# Altium integrated library AMCC PowerPC 440.IntLib: 120 symbols (part 17 of 33)
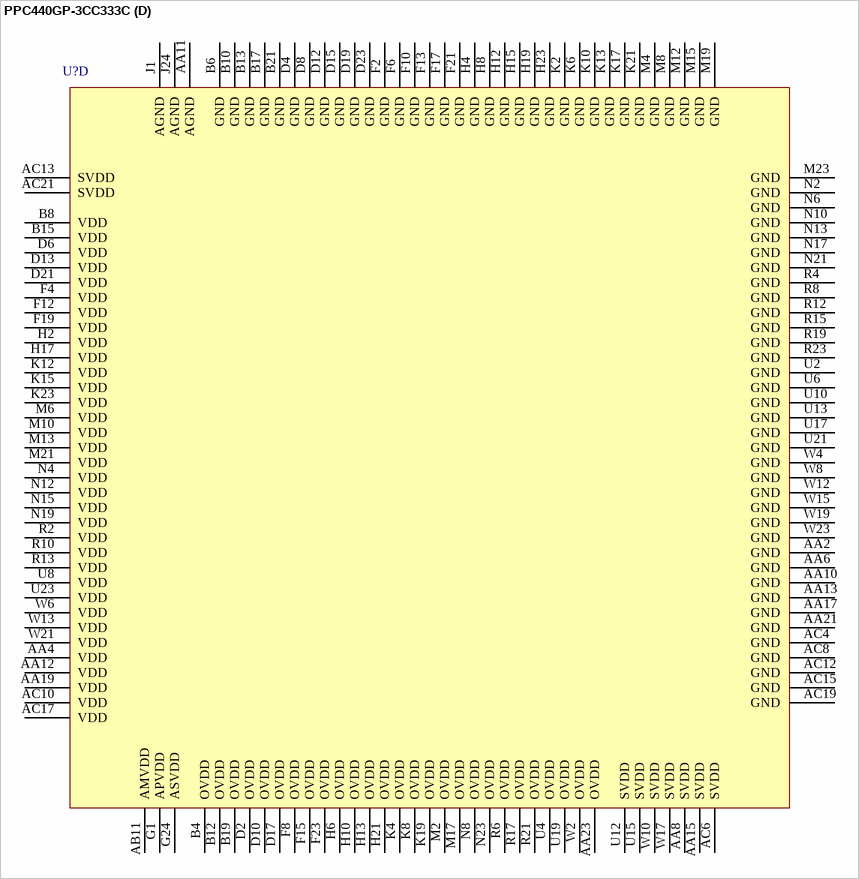
[diagram p415: symbol PPC440GP-3CC333C]

## PPC440GP-3CC333C
designator U?
PowerPC 440GP Embedded Processor, 333MHz, 25mm, 552 Ball CBGA; Published: 6-Oct-2005; LatestRevisionDate: 13-Apr-2006; LatestRevisionNote: IPC-7351 Footprint Added.; DatasheetVersion: rev1.06, Nov-2005; PackageVersion: Nov-2005; PackageReference: CBGA552_38; Publisher: Altium Limited; PackageDescription: 552-Ball Ceramic Ball Grid Array; ComponentLink1Description: Manufacturer Link; ComponentLink1URL: http://www.amcc.com/; ComponentLink2Description: Datasheet; ComponentLink2URL: https://www.amcc.com/MyAMCC/retrieveDocument/PowerPC/440GP/PPC440GP_DS2006_v1_06.pdf
footprint CBGA552_38 (BGA, 552-Leads, Body 25x25mm, Pitch 1mm)
3D model PPC440GP-CBGA552   (552-Ball Ceramic Ball Grid Array)
part A pins: A5 DrvrInh2 (in), AA1 MemData48 (io), AA3 MemData49 (io), AA5 DQS8 (io), AA14 MemData16 (io), AA16 BA0 (out), AA20 MemData03 (io), AB2 MemData50 (io), AB3 MemData52 (io), AB4 ECC6 (io), AB5 ~{CAS} (out), AB6 ECC1 (io), AB7 ECC0 (io), AB8 MemData40 (io), AB9 MemData45 (io), AB10 ClkEn1 (out), AB12 MemData29 (io), AB13 DQS3 (io), AB15 ~{BankSel}0 (out), AB16 MemData11 (io), AB17 MemData15 (io), AB18 MemAddr06 (out), AB19 MemData07 (io), AB20 MemAddr03 (out), AB21 MemData01 (io), AB22 TMS (in), AC3 ECC5 (io), AC7 MemData44 (io), AC9 DQS5 (io), AC11 DQS4 (io), AC14 DQS2 (io), AC16 DQS1 (io), AC18 MemData12 (io), AC20 DQS0 (io), AC22 MemData02 (io), AD4 ECC7 (io), AD5 ~{BankSel}3 (out), AD6 ECC2 (io), AD7 ~{RA}S (out), AD8 MemData41 (io), AD9 BA1 (out), AD10 MemData39 (io), AD11 ~{BankSel}2 (out), AD12 MemData33 (io), AD13 MemData24 (io), AD14 MemData25 (io), AD15 MemData17 (io), AD16 MemAddr05 (out), AD17 ClkEn0 (out), AD18 MemAddr04 (out), AD19 MemData06 (io), AD20 MemAddr01 (out), AD21 MemData00 (io), G22 SysClk (in), L1 Reserved, L2 RefVEn (in), L7 DrvrInh1 (in), L18 IRQ03[GPIO03] (io), L20 IRQ01[GPIO01] (io), M5 TestEn (in), M14 IRQ06[GPIO06] (io), M20 IRQ05[GPIO05] (io), N14 IRQ04[GPIO04] (io), N18 IRQ00[GPIO00] (io), N20 IRQ08[GPIO08] (io), N24 ~{TRS}T (in), P4 Reserved, P10 ~{SysRese}t (io), P12 MemData28 (io), P14 GPIO11 (io), P18 IRQ07[GPIO07] (io), P20 IRQ02[GPIO02] (io), P22 IRQ09[GPIO09] (io), R11 MemData42 (io), R14 MemData14 (io), T1 DQS7 (io), T2 SysErr (out), T7 MemData61 (io), T8 MemData56 (io), T9 MemVRef2 (in), T10 MemData38 (io), T11 MemData37 (io), T12 MemData35 (io), T13 MemData22 (io), T14 MemVRef1 (in), T15 MemData18 (io), U1 TmrClk (in), U5 MemData63 (io), U7 MemData57 (io), U9 ECC4 (io), U11 MemData36 (io), U14 MemData21 (io), U16 MemData04 (io), V1 MemData55 (io), V5 ~{Hal}t (in), V6 MemData60 (io), V7 MemData54 (io), V8 ~{MemClkOut}0 (out), V9 MemClkOut0 (out), V10 MemAddr12 (out), V11 MemAddr09 (out), V12 MemData31 (io), V13 MemAddr08 (out), V14 MemData26 (io), V15 MemData19 (io), V16 MemData09 (io), V17 MemData05 (io), V18 IRQ10[GPIO10] (io), V22 TCK (in), W1 MemData58 (io), W3 MemData59 (io), W5 MemData62 (io), W7 ECC3 (io), W9 ClkEn3 (out), W11 MemData32 (io), W14 ~{BankSel}1 (out), W16 MemAddr10 (out), W18 MemData08 (io), Y1 MemData51 (io), Y2 MemData53 (io), Y4 DQS6 (io), Y5 ~{WE} (out), Y6 MemData46 (io), Y7 MemData43 (io), Y8 MemData47 (io), Y9 ClkEn2 (out), Y10 MemData34 (io), Y11 MemAddr11 (out), Y12 MemData30 (io), Y13 MemData27 (io), Y14 MemAddr07 (out), Y15 MemData23 (io), Y16 MemData20 (io), Y17 MemData10 (io), Y18 MemData13 (io), Y19 MemAddr00 (out), Y20 MemAddr02 (out), Y22 TDO (out), Y24 TDI (in)
part B pins: A4 PCIXAD51 (io), A6 PCIXAD58 (io), A7 EMCRxD2,EMC1RxD0 (io), A8 PCIXAD42 (io), A10 PCIXAD05 (io), A11 ~{PCIXFram}e (io), A14 PCIXM66En (in), A15 PCIXAD09 (io), A17 ~{PCIXPEr}r (io), A18 ~{PCIXSEr}r (io), A20 PCIXAD21 (io), A21 PCIXAD22 (io), B3 PCIXAD46 (io), B5 PCIXAD54 (io), B7 PCIXAD62 (io), B9 PCIXAD01 (io), B16 PCIXAD13 (io), B22 PCIXAD25 (io), C2 PCIXAD41 (io), C3 PCIXC5[~{BE5}] (io), C4 PCIXAD50 (io), C5 EMCTxErr,EMC1TxEn (out), C6 PCIXAD57 (io), C8 PCIXC4[~{BE4}] (io), C9 PCIXAD55 (io), C10 PCIXAD04 (io), C12 ~{PCIXTRD}Y (io), C15 PCIXAD10 (io), C16 PCIXAD14 (io), C17 PCIXAD00 (io), C19 PCIXC2[~{BE2}] (io), C21 PCIXAD23 (io), C22 ~{PCIXGnt}1[IRQ12] (io), C23 PCIXAD28 (io), D1 PCIXAD36 (io), D3 PCIXAD45 (io), D5 PCIXAD53 (io), D7 PCIXAD61 (io), D9 ~{PCIXAck6}4 (io), D16 PCIXAD15 (io), D20 PCIXAD20 (io), D22 PCIXAD30 (io), D24 PCIXAD31 (io), E1 EMCRxD1,EMC0RxD1 (io), E2 PCIXAD40 (io), E3 PCIXClk (in), E4 PCIXAD49 (io), E6 PCIXAD56 (io), E7 PCIXAD60 (io), E8 PCIXAD63 (io), E9 ~{PCIXReq6}4 (io), E10 PCIXAD03 (io), E12 ~{PCIXIRD}Y (io), E13 ~{PCIXDevSe}l (io), E15 PCIXAD11 (io), E16 PCIXC1[~{BE1}] (io), E18 PCIXAD16 (io), E19 PCIXAD17 (io), E20 ~{PCIXReq}2 (in), E21 ~{PCIXReq}1[IRQ11] (in), E22 ~{PCIXGnt}0 (io), E23 PCIXAD27 (io), E24 ~{PCIXReq}0 (io), F1 PCIXAD35 (io), F3 PCIXAD44 (io), F5 PCIXAD52 (io), F7 PCIXAD59 (io), F9 PCIXC7[~{BE7}] (io), F11 PCIXAD06 (io), F14 PCIXC0[~{BE0}] (io), F16 PCIXParLow (io), F18 PCIXAD18 (io), F20 PCIXC3[~{BE3}] (io), F22 PCIXAD24 (io), F24 PCIXAD29 (io), G2 PCIXAD39 (io), G3 EMCRxD0,EMC0RxD0 (io), G4 PCIXAD48 (io), G5 PCIXAD43 (io), G7 PCIXIDSel (in), G8 PCIX133Cap (out), G9 PCIXC6[~{BE6}] (io), G10 PCIXAD02 (io), G12 PCIXAD07 (io), G14 PCIXAD08 (io), G15 PCIXAD12 (io), G18 PCIXAD19 (io), G21 PCIXAD26 (io), G23 ~{PCIXReq}4 (in), H1 PCIXAD33 (io), H3 PCIXAD32 (io), H5 PCIXAD38 (io), H7 PCIXAD47 (io), H9 EMCRxD3,EMC1RxD1 (io), J2 EMCRxClk (in), J3 EMCTxD3,EMC1TxD1 (out), J4 EMCTxD2,EMC1TxD0 (out), J5 PCIXAD37 (io), J6 EMCTxClk,EMCRefClk (in), J7 EMCCD,EMC1RxErr (io), J8 EMCMDClk (out), K1 EMCRxDV,EMC1CrSDV (in), K3 EMCRxErr,EMC0RxErr (in), K5 EMCTxD1,EMC0TxD1 (out), K7 EMCCrS,EMC0CrSDV (io), L4 PCIXParHigh (io), L5 EMCMDIO (io), L6 EMCTxEn,EMC0TxEn (out), L8 PCIXAD34 (io), L9 EMCTxD0,EMC0TxD0 (out), L12 ~{PCIXSto}p (io), L23 PCIXCap (in), M7 ~{PCIXIN}T (out), M18 ~{PCIXGn}~{t}3 (out), M24 ~{PCIXRese}t (out), N9 TrcES2[GPIO23] (io), N16 TrcBS0[GPIO18] (io), N22 ~{PCIXGnt}2 (out), P3 TrcTS1[GPIO27] (io), P8 TrcES3[GPIO24] (io), P9 TrcTS3[GPIO29] (io), P17 TrcBS1[GPIO19] (io), P19 ~{PCIXGnt}5 (out), P23 TrcES1[GPIO22] (io), R1 TrcTS6 (io), R5 TrcClk (out), R7 TrcTS2[GPIO28] (io), R9 TrcTS4[GPIO30] (io), R18 ~{PCIXReq}5 (in), R20 ~{PCIXReq}3 (in), R22 ~{PCIXGnt}4 (out), T4 TrcTS0[GPIO26] (io), T5 TrcES4[GPIO25] (io), T6 TrcTS5[GPIO31] (io), T20 TrcBS2[GPIO20] (io), T21 TrcES0[GPIO21] (io)
part C pins: A9 UARTSerClk (in), A12 PerAddr03 (io), A13 PerAddr12 (io), A16 PerAddr11 (io), A19 PerAddr04 (io), AA7 DM5 (out), AA9 DM4 (out), AA18 DM1 (out), AA22 ~{ExtAc}k (out), AA24 BusReq (out), AB14 DM2 (out), AB23 ~{ExtRe}q (in), AC5 DM8 (out), B11 PerAddr02 (io), B14 PerAddr13 (io), B18 ~{UART0_DT}R (out), B20 PerAddr16 (io), C7 ~{PerBLas}t (io), C11 PerAddr01 (io), C13 ~{UART0_CT}S (in), C14 PerAddr14 (io), C18 UART1_Rx[GPIO12] (io), C20 PerAddr10 (io), D11 PerAddr00 (io), D14 PerAddr15 (io), D18 PerAddr05 (io), E5 ~{UART1_RT}S/~{DTR}[GPIO15] (io), E11 PerAddr06 (io), E14 PerAddr09 (io), E17 ~{PerCS}0 (out), G6 ~{UART1_DS}R/~{CTS}[GPIO14] (io), G11 IIC0SClk (io), G13 IIC0SDA (io), G16 ~{UART0_RT}S (out), G17 UART0_Rx (in), G19 PerData04 (io), G20 PerData03 (io), H11 IIC1SClk[GPIO16] (io), H14 IIC1SDA[GPIO17] (io), H16 ~{UART0_R}I (in), H18 PerData05 (io), H20 PerData02 (io), H22 PerData01 (io), H24 PerData00 (io), J9 PerData19 (io), J10 PerData18 (io), J11 PerData17 (io), J12 PerData16 (io), J13 PerData15 (io), J14 PerData14 (io), J15 PerData13 (io), J16 UART1_Tx[GPIO13] (io), J17 PerData12 (io), J18 PerData11 (io), J19 PerData10 (io), J20 PerData09 (io), J21 PerData08 (io), J22 PerData07 (io), J23 PerData06 (io), K9 PerData28 (io), K11 PerData27 (io), K14 PerData26 (io), K16 PerData25 (io), K18 PerData24 (io), K20 PerData23 (io), K22 PerData22 (io), K24 PerData21 (io), L3 ~{PerCS}4 (out), L10 ~{PerCS}1 (out), L11 UART0_Tx (in), L13 ~{PerCS}6 (out), L14 PerData20 (io), L15 PerAddr17 (io), L16 PerData31 (io), L17 PerData30 (io), L19 PerData29 (io), L21 PerAddr18 (io), L22 PerAddr19 (io), L24 PerAddr22 (io), M1 PerAddr21 (io), M3 PerAddr07 (io), M9 ~{PerO}E (out), M11 DMAReq1 (in), M16 EOT3/TC3 (io), M22 PerAddr20 (io), N1 PerAddr08 (io), N3 PerAddr28 (io), N5 DMAAck0 (out), N7 PerReady[RcvrInh] (in), N11 DMAReq2 (in), P1 DMAReq3 (in), P2 ~{PerW}E (out), P5 PerR/~{W} (io), P6 DMAAck2 (out), P7 DMAAck1 (out), P11 DMAAck3 (out), P13 DM3 (out), P15 EOT1/TC1 (io), P16 EOT2/TC2 (io), P21 PerErr (io), P24 PerAddr23 (io), R3 DMAReq0 (in), R16 EOT0/TC0 (io), R24 PerAddr25 (io), T3 ~{PerCS}5 (out), T16 DM0 (out), T17 ~{ExtRese}t (out), T18 ~{PerWBE}0 (io), T19 PerAddr24 (io), T22 PerPar1 (io), T23 PerPar0 (io), T24 ~{PerCS}3 (out), U3 ~{PerCS}7 (out), U18 PerClk (out), U20 PerPar3 (io), U22 PerAddr26 (io), U24 PerAddr27 (io), V2 ~{UART0_DS}R (in), V3 DM7 (out), V4 ~{PerCS}2 (out), V19 ~{PerWBE}1 (io), V20 PerAddr29 (io), V21 PerAddr31 (io), V23 PerAddr30 (io), V24 ~{UART0_DC}D (in), W20 PerPar2 (io), W22 ~{PerWBE}2 (io), W24 ~{PerWBE}3 (io), Y3 DM6 (out), Y21 HoldAck (out), Y23 HoldReq (in)
part D pins: AA2 GND (power), AA4 VDD (power), AA6 GND (power), AA8 SVDD (power), AA10 GND (power), AA11 AGND (power), AA12 VDD (power), AA13 GND (power), AA15 SVDD (power), AA17 GND (power), AA19 VDD (power), AA21 GND (power), AA23 OVDD (power), AB11 AMVDD (power), AC4 GND (power), AC6 SVDD (power), AC8 GND (power), AC10 VDD (power), AC12 GND (power), AC13 SVDD (power), AC15 GND (power), AC17 VDD (power), AC19 GND (power), AC21 SVDD (power), B4 OVDD (power), B6 GND (power), B8 VDD (power), B10 GND (power), B12 OVDD (power), B13 GND (power), B15 VDD (power), B17 GND (power), B19 OVDD (power), B21 GND (power), D2 OVDD (power), D4 GND (power), D6 VDD (power), D8 GND (power), D10 OVDD (power), D12 GND (power), D13 VDD (power), D15 GND (power), D17 OVDD (power), D19 GND (power), D21 VDD (power), D23 GND (power), F2 GND (power), F4 VDD (power), F6 GND (power), F8 OVDD (power), F10 GND (power), F12 VDD (power), F13 GND (power), F15 OVDD (power), F17 GND (power), F19 VDD (power), F21 GND (power), F23 OVDD (power), G1 APVDD (power), G24 ASVDD (power), H2 VDD (power), H4 GND (power), H6 OVDD (power), H8 GND (power), H10 OVDD (power), H12 GND (power), H13 OVDD (power), H15 GND (power), H17 VDD (power), H19 GND (power), H21 OVDD (power), H23 GND (power), J1 AGND (power), J24 AGND (power), K2 GND (power), K4 OVDD (power), K6 GND (power), K8 OVDD (power), K10 GND (power), K12 VDD (power), K13 GND (power), K15 VDD (power), K17 GND (power), K19 OVDD (power), K21 GND (power), K23 VDD (power), M2 OVDD (power), M4 GND (power), M6 VDD (power), M8 GND (power), M10 VDD (power), M12 GND (power), M13 VDD (power), M15 GND (power), M17 OVDD (power), M19 GND (power), M21 VDD (power), M23 GND (power), N2 GND (power), N4 VDD (power), N6 GND (power), N8 OVDD (power), N10 GND (power), N12 VDD (power), N13 GND (power), N15 VDD (power), N17 GND (power), N19 VDD (power), N21 GND (power), N23 OVDD (power), R2 VDD (power), R4 GND (power), R6 OVDD (power), R8 GND (power), R10 VDD (power), R12 GND (power), R13 VDD (power), R15 GND (power), R17 OVDD (power), R19 GND (power), R21 OVDD (power), R23 GND (power), U2 GND (power), U4 OVDD (power), U6 GND (power), U8 VDD (power), U10 GND (power), U12 SVDD (power), U13 GND (power), U15 SVDD (power), U17 GND (power), U19 OVDD (power), U21 GND (power), U23 VDD (power), W2 OVDD (power), W4 GND (power), W6 VDD (power), W8 GND (power), W10 SVDD (power), W12 GND (power), W13 VDD (power), W15 GND (power), W17 SVDD (power), W19 GND (power), W21 VDD (power), W23 GND (power)

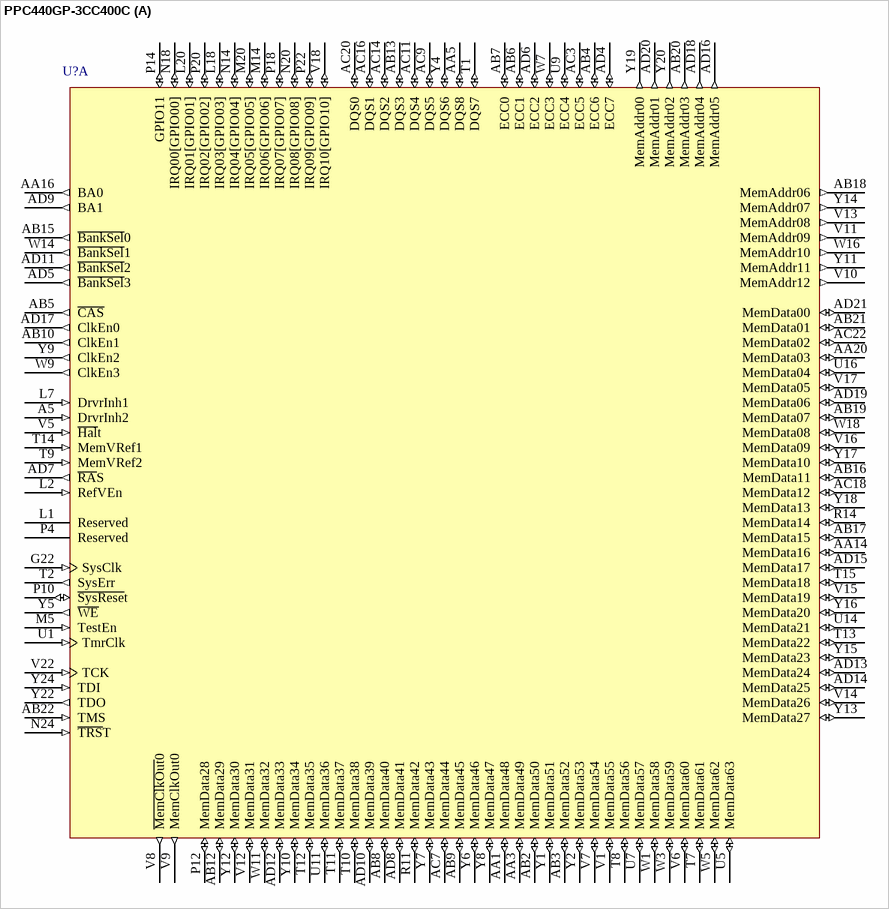
[diagram p196: symbol PPC440GP-3CC400C]

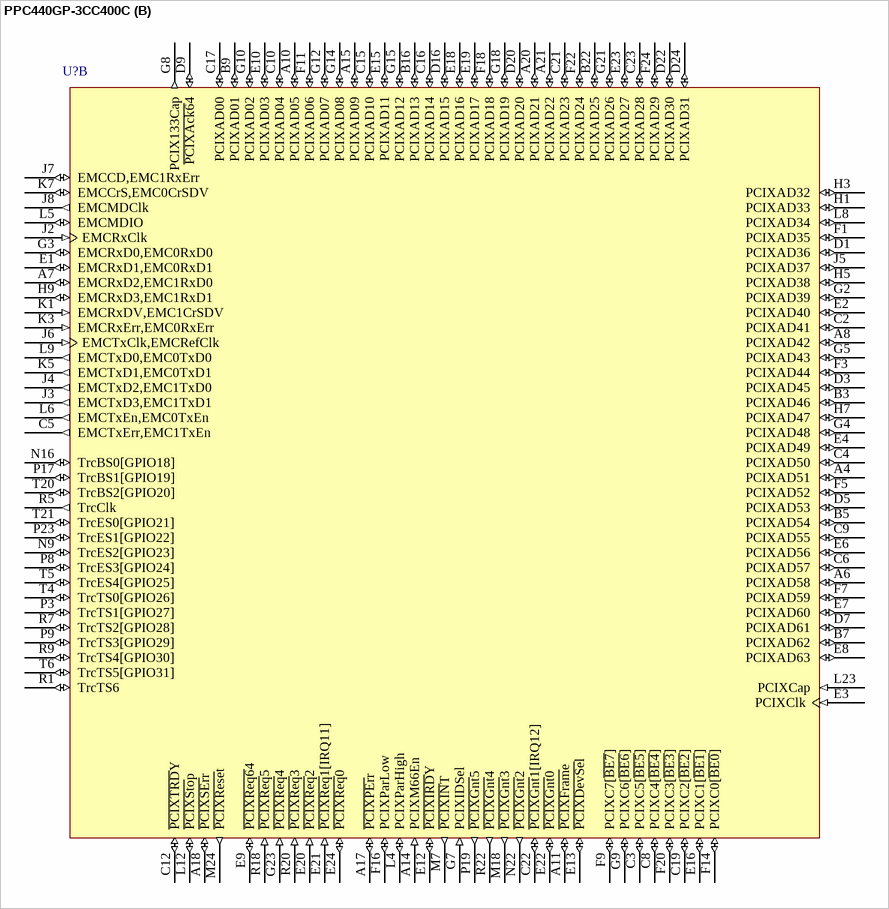
[diagram p197: symbol PPC440GP-3CC400C]

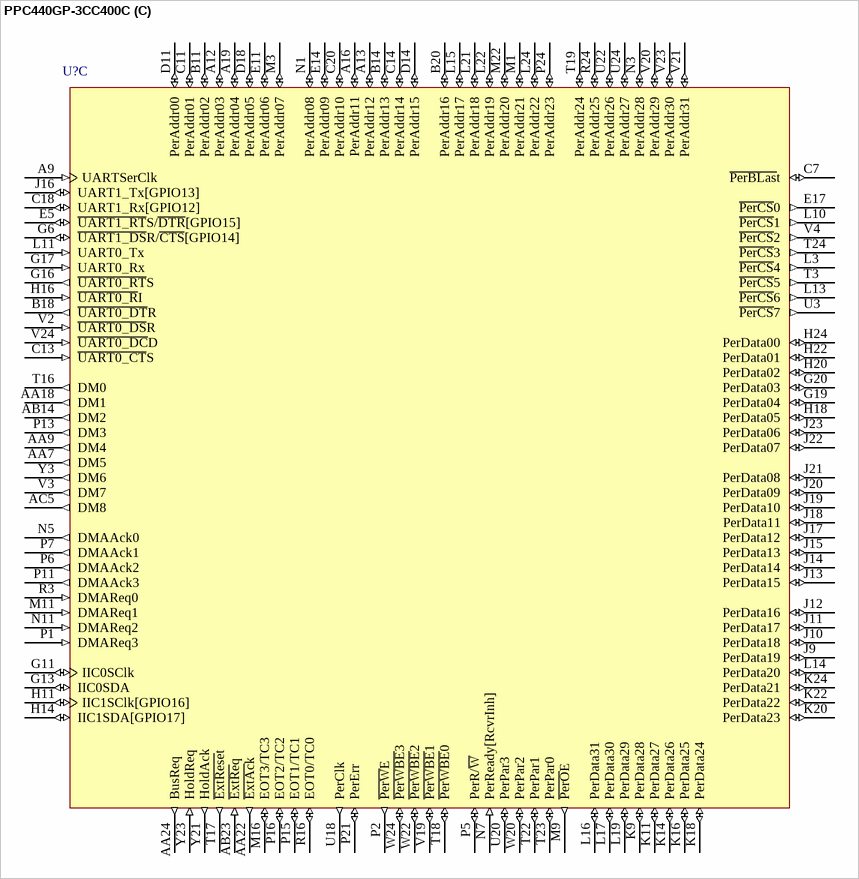
[diagram p198: symbol PPC440GP-3CC400C]

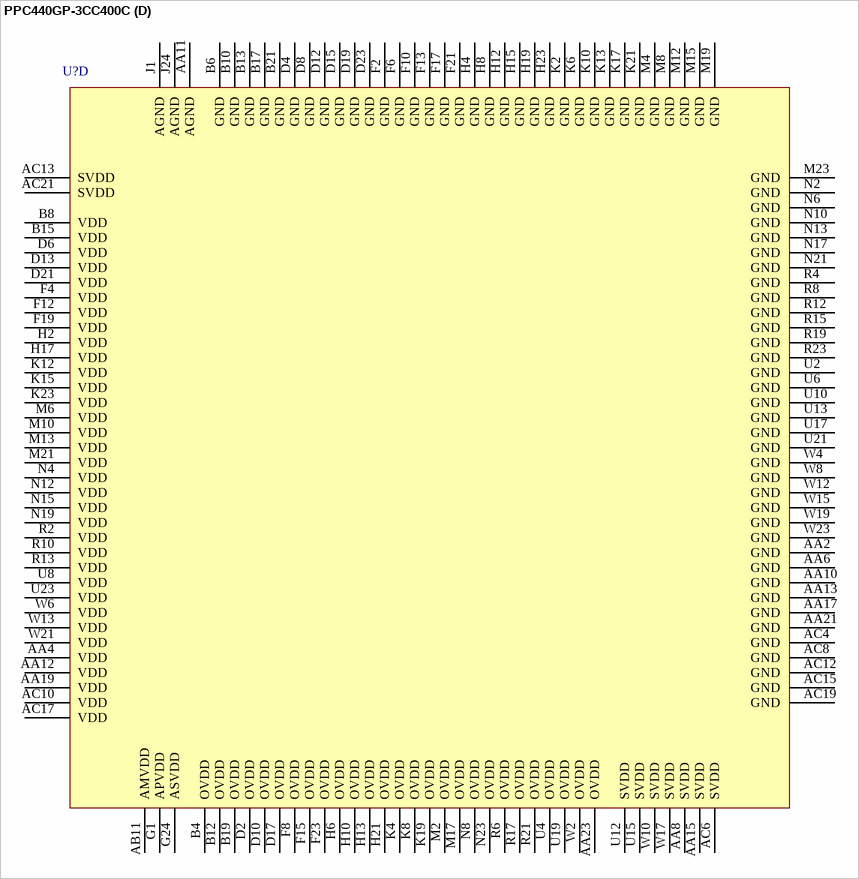
[diagram p199: symbol PPC440GP-3CC400C]

## PPC440GP-3CC400C
designator U?
PowerPC 440GP Embedded Processor, 400MHz, 25mm, 552 Ball CBGA; Published: 6-Oct-2005; LatestRevisionDate: 13-Apr-2006; LatestRevisionNote: IPC-7351 Footprint Added.; DatasheetVersion: rev1.06, Nov-2005; PackageVersion: Nov-2005; PackageReference: CBGA552_38; Publisher: Altium Limited; PackageDescription: 552-Ball Ceramic Ball Grid Array; ComponentLink1Description: Manufacturer Link; ComponentLink1URL: http://www.amcc.com/; ComponentLink2Description: Datasheet; ComponentLink2URL: https://www.amcc.com/MyAMCC/retrieveDocument/PowerPC/440GP/PPC440GP_DS2006_v1_06.pdf
footprint CBGA552_38 (BGA, 552-Leads, Body 25x25mm, Pitch 1mm)
3D model PPC440GP-CBGA552   (552-Ball Ceramic Ball Grid Array)
part A pins: A5 DrvrInh2 (in), AA1 MemData48 (io), AA3 MemData49 (io), AA5 DQS8 (io), AA14 MemData16 (io), AA16 BA0 (out), AA20 MemData03 (io), AB2 MemData50 (io), AB3 MemData52 (io), AB4 ECC6 (io), AB5 ~{CAS} (out), AB6 ECC1 (io), AB7 ECC0 (io), AB8 MemData40 (io), AB9 MemData45 (io), AB10 ClkEn1 (out), AB12 MemData29 (io), AB13 DQS3 (io), AB15 ~{BankSel}0 (out), AB16 MemData11 (io), AB17 MemData15 (io), AB18 MemAddr06 (out), AB19 MemData07 (io), AB20 MemAddr03 (out), AB21 MemData01 (io), AB22 TMS (in), AC3 ECC5 (io), AC7 MemData44 (io), AC9 DQS5 (io), AC11 DQS4 (io), AC14 DQS2 (io), AC16 DQS1 (io), AC18 MemData12 (io), AC20 DQS0 (io), AC22 MemData02 (io), AD4 ECC7 (io), AD5 ~{BankSel}3 (out), AD6 ECC2 (io), AD7 ~{RA}S (out), AD8 MemData41 (io), AD9 BA1 (out), AD10 MemData39 (io), AD11 ~{BankSel}2 (out), AD12 MemData33 (io), AD13 MemData24 (io), AD14 MemData25 (io), AD15 MemData17 (io), AD16 MemAddr05 (out), AD17 ClkEn0 (out), AD18 MemAddr04 (out), AD19 MemData06 (io), AD20 MemAddr01 (out), AD21 MemData00 (io), G22 SysClk (in), L1 Reserved, L2 RefVEn (in), L7 DrvrInh1 (in), L18 IRQ03[GPIO03] (io), L20 IRQ01[GPIO01] (io), M5 TestEn (in), M14 IRQ06[GPIO06] (io), M20 IRQ05[GPIO05] (io), N14 IRQ04[GPIO04] (io), N18 IRQ00[GPIO00] (io), N20 IRQ08[GPIO08] (io), N24 ~{TRS}T (in), P4 Reserved, P10 ~{SysRese}t (io), P12 MemData28 (io), P14 GPIO11 (io), P18 IRQ07[GPIO07] (io), P20 IRQ02[GPIO02] (io), P22 IRQ09[GPIO09] (io), R11 MemData42 (io), R14 MemData14 (io), T1 DQS7 (io), T2 SysErr (out), T7 MemData61 (io), T8 MemData56 (io), T9 MemVRef2 (in), T10 MemData38 (io), T11 MemData37 (io), T12 MemData35 (io), T13 MemData22 (io), T14 MemVRef1 (in), T15 MemData18 (io), U1 TmrClk (in), U5 MemData63 (io), U7 MemData57 (io), U9 ECC4 (io), U11 MemData36 (io), U14 MemData21 (io), U16 MemData04 (io), V1 MemData55 (io), V5 ~{Hal}t (in), V6 MemData60 (io), V7 MemData54 (io), V8 ~{MemClkOut}0 (out), V9 MemClkOut0 (out), V10 MemAddr12 (out), V11 MemAddr09 (out), V12 MemData31 (io), V13 MemAddr08 (out), V14 MemData26 (io), V15 MemData19 (io), V16 MemData09 (io), V17 MemData05 (io), V18 IRQ10[GPIO10] (io), V22 TCK (in), W1 MemData58 (io), W3 MemData59 (io), W5 MemData62 (io), W7 ECC3 (io), W9 ClkEn3 (out), W11 MemData32 (io), W14 ~{BankSel}1 (out), W16 MemAddr10 (out), W18 MemData08 (io), Y1 MemData51 (io), Y2 MemData53 (io), Y4 DQS6 (io), Y5 ~{WE} (out), Y6 MemData46 (io), Y7 MemData43 (io), Y8 MemData47 (io), Y9 ClkEn2 (out), Y10 MemData34 (io), Y11 MemAddr11 (out), Y12 MemData30 (io), Y13 MemData27 (io), Y14 MemAddr07 (out), Y15 MemData23 (io), Y16 MemData20 (io), Y17 MemData10 (io), Y18 MemData13 (io), Y19 MemAddr00 (out), Y20 MemAddr02 (out), Y22 TDO (out), Y24 TDI (in)
part B pins: A4 PCIXAD51 (io), A6 PCIXAD58 (io), A7 EMCRxD2,EMC1RxD0 (io), A8 PCIXAD42 (io), A10 PCIXAD05 (io), A11 ~{PCIXFram}e (io), A14 PCIXM66En (in), A15 PCIXAD09 (io), A17 ~{PCIXPEr}r (io), A18 ~{PCIXSEr}r (io), A20 PCIXAD21 (io), A21 PCIXAD22 (io), B3 PCIXAD46 (io), B5 PCIXAD54 (io), B7 PCIXAD62 (io), B9 PCIXAD01 (io), B16 PCIXAD13 (io), B22 PCIXAD25 (io), C2 PCIXAD41 (io), C3 PCIXC5[~{BE5}] (io), C4 PCIXAD50 (io), C5 EMCTxErr,EMC1TxEn (out), C6 PCIXAD57 (io), C8 PCIXC4[~{BE4}] (io), C9 PCIXAD55 (io), C10 PCIXAD04 (io), C12 ~{PCIXTRD}Y (io), C15 PCIXAD10 (io), C16 PCIXAD14 (io), C17 PCIXAD00 (io), C19 PCIXC2[~{BE2}] (io), C21 PCIXAD23 (io), C22 ~{PCIXGnt}1[IRQ12] (io), C23 PCIXAD28 (io), D1 PCIXAD36 (io), D3 PCIXAD45 (io), D5 PCIXAD53 (io), D7 PCIXAD61 (io), D9 ~{PCIXAck6}4 (io), D16 PCIXAD15 (io), D20 PCIXAD20 (io), D22 PCIXAD30 (io), D24 PCIXAD31 (io), E1 EMCRxD1,EMC0RxD1 (io), E2 PCIXAD40 (io), E3 PCIXClk (in), E4 PCIXAD49 (io), E6 PCIXAD56 (io), E7 PCIXAD60 (io), E8 PCIXAD63 (io), E9 ~{PCIXReq6}4 (io), E10 PCIXAD03 (io), E12 ~{PCIXIRD}Y (io), E13 ~{PCIXDevSe}l (io), E15 PCIXAD11 (io), E16 PCIXC1[~{BE1}] (io), E18 PCIXAD16 (io), E19 PCIXAD17 (io), E20 ~{PCIXReq}2 (in), E21 ~{PCIXReq}1[IRQ11] (in), E22 ~{PCIXGnt}0 (io), E23 PCIXAD27 (io), E24 ~{PCIXReq}0 (io), F1 PCIXAD35 (io), F3 PCIXAD44 (io), F5 PCIXAD52 (io), F7 PCIXAD59 (io), F9 PCIXC7[~{BE7}] (io), F11 PCIXAD06 (io), F14 PCIXC0[~{BE0}] (io), F16 PCIXParLow (io), F18 PCIXAD18 (io), F20 PCIXC3[~{BE3}] (io), F22 PCIXAD24 (io), F24 PCIXAD29 (io), G2 PCIXAD39 (io), G3 EMCRxD0,EMC0RxD0 (io), G4 PCIXAD48 (io), G5 PCIXAD43 (io), G7 PCIXIDSel (in), G8 PCIX133Cap (out), G9 PCIXC6[~{BE6}] (io), G10 PCIXAD02 (io), G12 PCIXAD07 (io), G14 PCIXAD08 (io), G15 PCIXAD12 (io), G18 PCIXAD19 (io), G21 PCIXAD26 (io), G23 ~{PCIXReq}4 (in), H1 PCIXAD33 (io), H3 PCIXAD32 (io), H5 PCIXAD38 (io), H7 PCIXAD47 (io), H9 EMCRxD3,EMC1RxD1 (io), J2 EMCRxClk (in), J3 EMCTxD3,EMC1TxD1 (out), J4 EMCTxD2,EMC1TxD0 (out), J5 PCIXAD37 (io), J6 EMCTxClk,EMCRefClk (in), J7 EMCCD,EMC1RxErr (io), J8 EMCMDClk (out), K1 EMCRxDV,EMC1CrSDV (in), K3 EMCRxErr,EMC0RxErr (in), K5 EMCTxD1,EMC0TxD1 (out), K7 EMCCrS,EMC0CrSDV (io), L4 PCIXParHigh (io), L5 EMCMDIO (io), L6 EMCTxEn,EMC0TxEn (out), L8 PCIXAD34 (io), L9 EMCTxD0,EMC0TxD0 (out), L12 ~{PCIXSto}p (io), L23 PCIXCap (in), M7 ~{PCIXIN}T (out), M18 ~{PCIXGn}~{t}3 (out), M24 ~{PCIXRese}t (out), N9 TrcES2[GPIO23] (io), N16 TrcBS0[GPIO18] (io), N22 ~{PCIXGnt}2 (out), P3 TrcTS1[GPIO27] (io), P8 TrcES3[GPIO24] (io), P9 TrcTS3[GPIO29] (io), P17 TrcBS1[GPIO19] (io), P19 ~{PCIXGnt}5 (out), P23 TrcES1[GPIO22] (io), R1 TrcTS6 (io), R5 TrcClk (out), R7 TrcTS2[GPIO28] (io), R9 TrcTS4[GPIO30] (io), R18 ~{PCIXReq}5 (in), R20 ~{PCIXReq}3 (in), R22 ~{PCIXGnt}4 (out), T4 TrcTS0[GPIO26] (io), T5 TrcES4[GPIO25] (io), T6 TrcTS5[GPIO31] (io), T20 TrcBS2[GPIO20] (io), T21 TrcES0[GPIO21] (io)
part C pins: A9 UARTSerClk (in), A12 PerAddr03 (io), A13 PerAddr12 (io), A16 PerAddr11 (io), A19 PerAddr04 (io), AA7 DM5 (out), AA9 DM4 (out), AA18 DM1 (out), AA22 ~{ExtAc}k (out), AA24 BusReq (out), AB14 DM2 (out), AB23 ~{ExtRe}q (in), AC5 DM8 (out), B11 PerAddr02 (io), B14 PerAddr13 (io), B18 ~{UART0_DT}R (out), B20 PerAddr16 (io), C7 ~{PerBLas}t (io), C11 PerAddr01 (io), C13 ~{UART0_CT}S (in), C14 PerAddr14 (io), C18 UART1_Rx[GPIO12] (io), C20 PerAddr10 (io), D11 PerAddr00 (io), D14 PerAddr15 (io), D18 PerAddr05 (io), E5 ~{UART1_RT}S/~{DTR}[GPIO15] (io), E11 PerAddr06 (io), E14 PerAddr09 (io), E17 ~{PerCS}0 (out), G6 ~{UART1_DS}R/~{CTS}[GPIO14] (io), G11 IIC0SClk (io), G13 IIC0SDA (io), G16 ~{UART0_RT}S (out), G17 UART0_Rx (in), G19 PerData04 (io), G20 PerData03 (io), H11 IIC1SClk[GPIO16] (io), H14 IIC1SDA[GPIO17] (io), H16 ~{UART0_R}I (in), H18 PerData05 (io), H20 PerData02 (io), H22 PerData01 (io), H24 PerData00 (io), J9 PerData19 (io), J10 PerData18 (io), J11 PerData17 (io), J12 PerData16 (io), J13 PerData15 (io), J14 PerData14 (io), J15 PerData13 (io), J16 UART1_Tx[GPIO13] (io), J17 PerData12 (io), J18 PerData11 (io), J19 PerData10 (io), J20 PerData09 (io), J21 PerData08 (io), J22 PerData07 (io), J23 PerData06 (io), K9 PerData28 (io), K11 PerData27 (io), K14 PerData26 (io), K16 PerData25 (io), K18 PerData24 (io), K20 PerData23 (io), K22 PerData22 (io), K24 PerData21 (io), L3 ~{PerCS}4 (out), L10 ~{PerCS}1 (out), L11 UART0_Tx (in), L13 ~{PerCS}6 (out), L14 PerData20 (io), L15 PerAddr17 (io), L16 PerData31 (io), L17 PerData30 (io), L19 PerData29 (io), L21 PerAddr18 (io), L22 PerAddr19 (io), L24 PerAddr22 (io), M1 PerAddr21 (io), M3 PerAddr07 (io), M9 ~{PerO}E (out), M11 DMAReq1 (in), M16 EOT3/TC3 (io), M22 PerAddr20 (io), N1 PerAddr08 (io), N3 PerAddr28 (io), N5 DMAAck0 (out), N7 PerReady[RcvrInh] (in), N11 DMAReq2 (in), P1 DMAReq3 (in), P2 ~{PerW}E (out), P5 PerR/~{W} (io), P6 DMAAck2 (out), P7 DMAAck1 (out), P11 DMAAck3 (out), P13 DM3 (out), P15 EOT1/TC1 (io), P16 EOT2/TC2 (io), P21 PerErr (io), P24 PerAddr23 (io), R3 DMAReq0 (in), R16 EOT0/TC0 (io), R24 PerAddr25 (io), T3 ~{PerCS}5 (out), T16 DM0 (out), T17 ~{ExtRese}t (out), T18 ~{PerWBE}0 (io), T19 PerAddr24 (io), T22 PerPar1 (io), T23 PerPar0 (io), T24 ~{PerCS}3 (out), U3 ~{PerCS}7 (out), U18 PerClk (out), U20 PerPar3 (io), U22 PerAddr26 (io), U24 PerAddr27 (io), V2 ~{UART0_DS}R (in), V3 DM7 (out), V4 ~{PerCS}2 (out), V19 ~{PerWBE}1 (io), V20 PerAddr29 (io), V21 PerAddr31 (io), V23 PerAddr30 (io), V24 ~{UART0_DC}D (in), W20 PerPar2 (io), W22 ~{PerWBE}2 (io), W24 ~{PerWBE}3 (io), Y3 DM6 (out), Y21 HoldAck (out), Y23 HoldReq (in)
part D pins: AA2 GND (power), AA4 VDD (power), AA6 GND (power), AA8 SVDD (power), AA10 GND (power), AA11 AGND (power), AA12 VDD (power), AA13 GND (power), AA15 SVDD (power), AA17 GND (power), AA19 VDD (power), AA21 GND (power), AA23 OVDD (power), AB11 AMVDD (power), AC4 GND (power), AC6 SVDD (power), AC8 GND (power), AC10 VDD (power), AC12 GND (power), AC13 SVDD (power), AC15 GND (power), AC17 VDD (power), AC19 GND (power), AC21 SVDD (power), B4 OVDD (power), B6 GND (power), B8 VDD (power), B10 GND (power), B12 OVDD (power), B13 GND (power), B15 VDD (power), B17 GND (power), B19 OVDD (power), B21 GND (power), D2 OVDD (power), D4 GND (power), D6 VDD (power), D8 GND (power), D10 OVDD (power), D12 GND (power), D13 VDD (power), D15 GND (power), D17 OVDD (power), D19 GND (power), D21 VDD (power), D23 GND (power), F2 GND (power), F4 VDD (power), F6 GND (power), F8 OVDD (power), F10 GND (power), F12 VDD (power), F13 GND (power), F15 OVDD (power), F17 GND (power), F19 VDD (power), F21 GND (power), F23 OVDD (power), G1 APVDD (power), G24 ASVDD (power), H2 VDD (power), H4 GND (power), H6 OVDD (power), H8 GND (power), H10 OVDD (power), H12 GND (power), H13 OVDD (power), H15 GND (power), H17 VDD (power), H19 GND (power), H21 OVDD (power), H23 GND (power), J1 AGND (power), J24 AGND (power), K2 GND (power), K4 OVDD (power), K6 GND (power), K8 OVDD (power), K10 GND (power), K12 VDD (power), K13 GND (power), K15 VDD (power), K17 GND (power), K19 OVDD (power), K21 GND (power), K23 VDD (power), M2 OVDD (power), M4 GND (power), M6 VDD (power), M8 GND (power), M10 VDD (power), M12 GND (power), M13 VDD (power), M15 GND (power), M17 OVDD (power), M19 GND (power), M21 VDD (power), M23 GND (power), N2 GND (power), N4 VDD (power), N6 GND (power), N8 OVDD (power), N10 GND (power), N12 VDD (power), N13 GND (power), N15 VDD (power), N17 GND (power), N19 VDD (power), N21 GND (power), N23 OVDD (power), R2 VDD (power), R4 GND (power), R6 OVDD (power), R8 GND (power), R10 VDD (power), R12 GND (power), R13 VDD (power), R15 GND (power), R17 OVDD (power), R19 GND (power), R21 OVDD (power), R23 GND (power), U2 GND (power), U4 OVDD (power), U6 GND (power), U8 VDD (power), U10 GND (power), U12 SVDD (power), U13 GND (power), U15 SVDD (power), U17 GND (power), U19 OVDD (power), U21 GND (power), U23 VDD (power), W2 OVDD (power), W4 GND (power), W6 VDD (power), W8 GND (power), W10 SVDD (power), W12 GND (power), W13 VDD (power), W15 GND (power), W17 SVDD (power), W19 GND (power), W21 VDD (power), W23 GND (power)

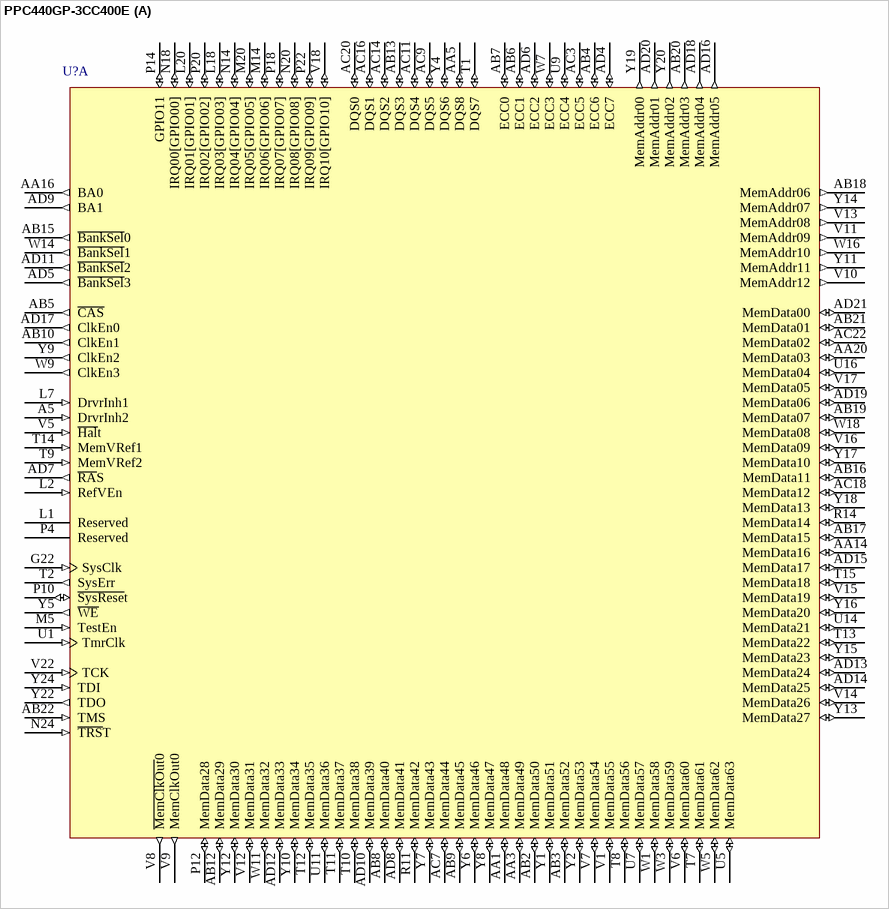
[diagram p200: symbol PPC440GP-3CC400E]

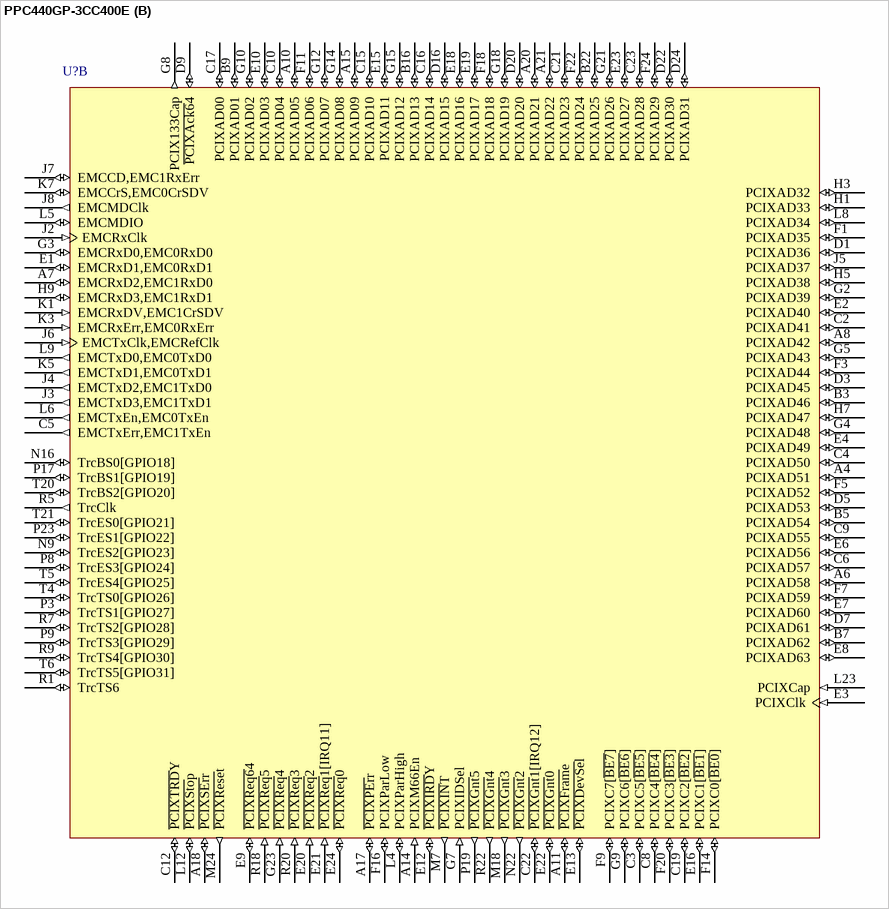
[diagram p201: symbol PPC440GP-3CC400E]

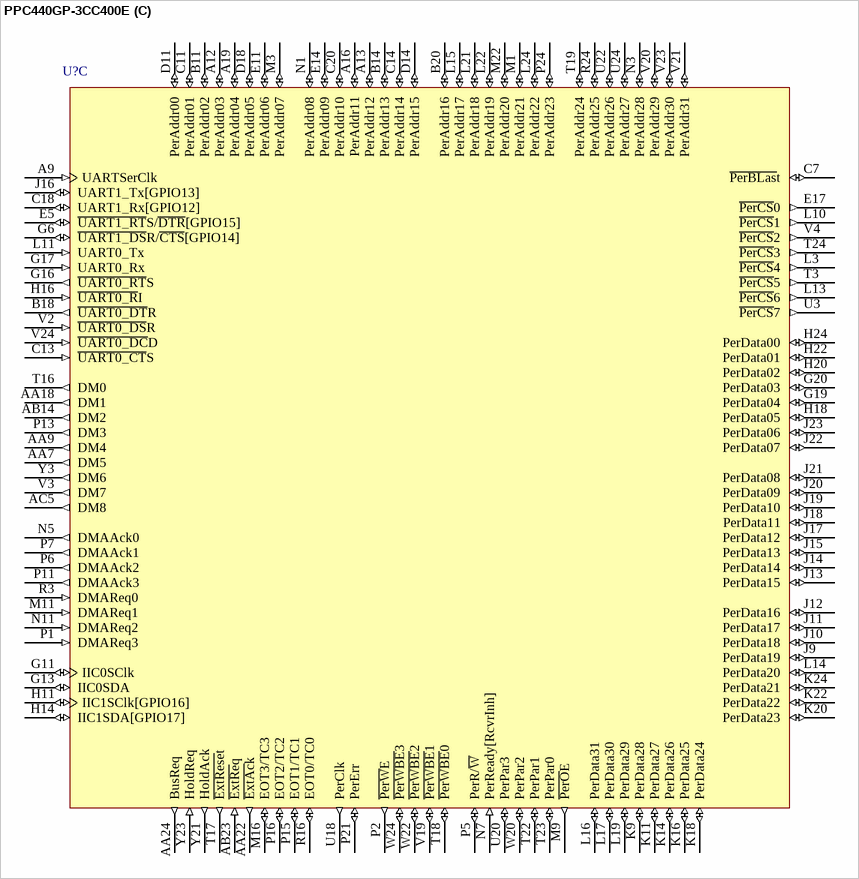
[diagram p202: symbol PPC440GP-3CC400E]

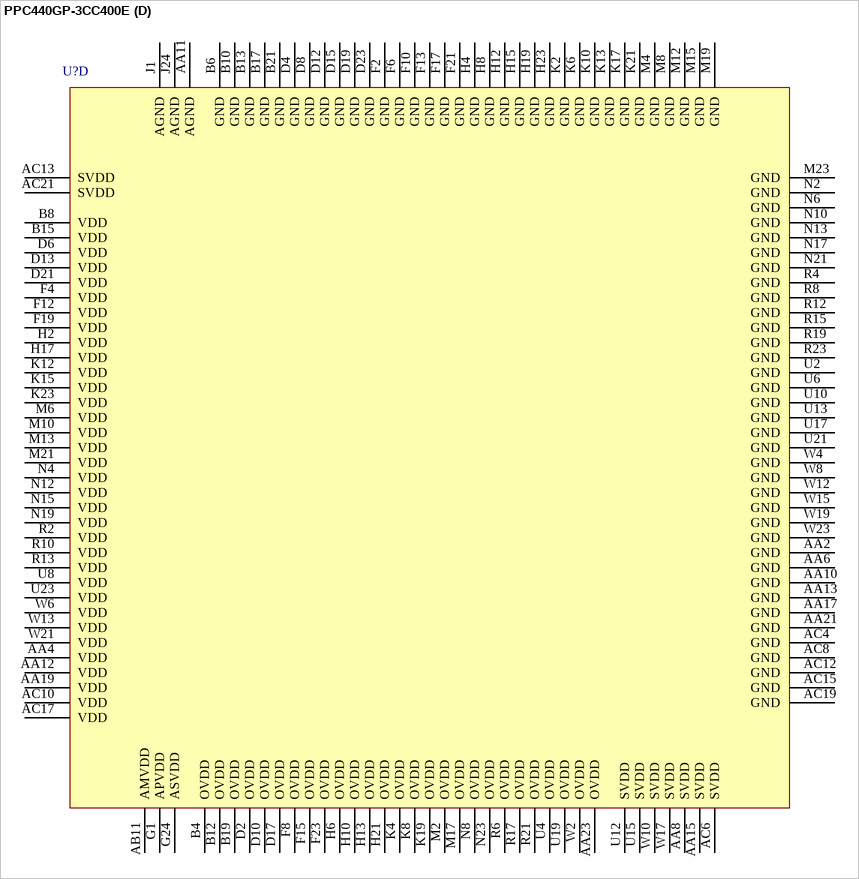
[diagram p203: symbol PPC440GP-3CC400E]

## PPC440GP-3CC400E
designator U?
PowerPC 440GP Embedded Processor, 400MHz, 25mm, 552 Ball CBGA; Published: 6-Oct-2005; LatestRevisionDate: 13-Apr-2006; LatestRevisionNote: IPC-7351 Footprint Added.; DatasheetVersion: rev1.06, Nov-2005; PackageVersion: Nov-2005; PackageReference: CBGA552_38; Publisher: Altium Limited; PackageDescription: 552-Ball Ceramic Ball Grid Array; ComponentLink1Description: Manufacturer Link; ComponentLink1URL: http://www.amcc.com/; ComponentLink2Description: Datasheet; ComponentLink2URL: https://www.amcc.com/MyAMCC/retrieveDocument/PowerPC/440GP/PPC440GP_DS2006_v1_06.pdf
footprint CBGA552_38 (BGA, 552-Leads, Body 25x25mm, Pitch 1mm)
3D model PPC440GP-CBGA552   (552-Ball Ceramic Ball Grid Array)
part A pins: A5 DrvrInh2 (in), AA1 MemData48 (io), AA3 MemData49 (io), AA5 DQS8 (io), AA14 MemData16 (io), AA16 BA0 (out), AA20 MemData03 (io), AB2 MemData50 (io), AB3 MemData52 (io), AB4 ECC6 (io), AB5 ~{CAS} (out), AB6 ECC1 (io), AB7 ECC0 (io), AB8 MemData40 (io), AB9 MemData45 (io), AB10 ClkEn1 (out), AB12 MemData29 (io), AB13 DQS3 (io), AB15 ~{BankSel}0 (out), AB16 MemData11 (io), AB17 MemData15 (io), AB18 MemAddr06 (out), AB19 MemData07 (io), AB20 MemAddr03 (out), AB21 MemData01 (io), AB22 TMS (in), AC3 ECC5 (io), AC7 MemData44 (io), AC9 DQS5 (io), AC11 DQS4 (io), AC14 DQS2 (io), AC16 DQS1 (io), AC18 MemData12 (io), AC20 DQS0 (io), AC22 MemData02 (io), AD4 ECC7 (io), AD5 ~{BankSel}3 (out), AD6 ECC2 (io), AD7 ~{RA}S (out), AD8 MemData41 (io), AD9 BA1 (out), AD10 MemData39 (io), AD11 ~{BankSel}2 (out), AD12 MemData33 (io), AD13 MemData24 (io), AD14 MemData25 (io), AD15 MemData17 (io), AD16 MemAddr05 (out), AD17 ClkEn0 (out), AD18 MemAddr04 (out), AD19 MemData06 (io), AD20 MemAddr01 (out), AD21 MemData00 (io), G22 SysClk (in), L1 Reserved, L2 RefVEn (in), L7 DrvrInh1 (in), L18 IRQ03[GPIO03] (io), L20 IRQ01[GPIO01] (io), M5 TestEn (in), M14 IRQ06[GPIO06] (io), M20 IRQ05[GPIO05] (io), N14 IRQ04[GPIO04] (io), N18 IRQ00[GPIO00] (io), N20 IRQ08[GPIO08] (io), N24 ~{TRS}T (in), P4 Reserved, P10 ~{SysRese}t (io), P12 MemData28 (io), P14 GPIO11 (io), P18 IRQ07[GPIO07] (io), P20 IRQ02[GPIO02] (io), P22 IRQ09[GPIO09] (io), R11 MemData42 (io), R14 MemData14 (io), T1 DQS7 (io), T2 SysErr (out), T7 MemData61 (io), T8 MemData56 (io), T9 MemVRef2 (in), T10 MemData38 (io), T11 MemData37 (io), T12 MemData35 (io), T13 MemData22 (io), T14 MemVRef1 (in), T15 MemData18 (io), U1 TmrClk (in), U5 MemData63 (io), U7 MemData57 (io), U9 ECC4 (io), U11 MemData36 (io), U14 MemData21 (io), U16 MemData04 (io), V1 MemData55 (io), V5 ~{Hal}t (in), V6 MemData60 (io), V7 MemData54 (io), V8 ~{MemClkOut}0 (out), V9 MemClkOut0 (out), V10 MemAddr12 (out), V11 MemAddr09 (out), V12 MemData31 (io), V13 MemAddr08 (out), V14 MemData26 (io), V15 MemData19 (io), V16 MemData09 (io), V17 MemData05 (io), V18 IRQ10[GPIO10] (io), V22 TCK (in), W1 MemData58 (io), W3 MemData59 (io), W5 MemData62 (io), W7 ECC3 (io), W9 ClkEn3 (out), W11 MemData32 (io), W14 ~{BankSel}1 (out), W16 MemAddr10 (out), W18 MemData08 (io), Y1 MemData51 (io), Y2 MemData53 (io), Y4 DQS6 (io), Y5 ~{WE} (out), Y6 MemData46 (io), Y7 MemData43 (io), Y8 MemData47 (io), Y9 ClkEn2 (out), Y10 MemData34 (io), Y11 MemAddr11 (out), Y12 MemData30 (io), Y13 MemData27 (io), Y14 MemAddr07 (out), Y15 MemData23 (io), Y16 MemData20 (io), Y17 MemData10 (io), Y18 MemData13 (io), Y19 MemAddr00 (out), Y20 MemAddr02 (out), Y22 TDO (out), Y24 TDI (in)
part B pins: A4 PCIXAD51 (io), A6 PCIXAD58 (io), A7 EMCRxD2,EMC1RxD0 (io), A8 PCIXAD42 (io), A10 PCIXAD05 (io), A11 ~{PCIXFram}e (io), A14 PCIXM66En (in), A15 PCIXAD09 (io), A17 ~{PCIXPEr}r (io), A18 ~{PCIXSEr}r (io), A20 PCIXAD21 (io), A21 PCIXAD22 (io), B3 PCIXAD46 (io), B5 PCIXAD54 (io), B7 PCIXAD62 (io), B9 PCIXAD01 (io), B16 PCIXAD13 (io), B22 PCIXAD25 (io), C2 PCIXAD41 (io), C3 PCIXC5[~{BE5}] (io), C4 PCIXAD50 (io), C5 EMCTxErr,EMC1TxEn (out), C6 PCIXAD57 (io), C8 PCIXC4[~{BE4}] (io), C9 PCIXAD55 (io), C10 PCIXAD04 (io), C12 ~{PCIXTRD}Y (io), C15 PCIXAD10 (io), C16 PCIXAD14 (io), C17 PCIXAD00 (io), C19 PCIXC2[~{BE2}] (io), C21 PCIXAD23 (io), C22 ~{PCIXGnt}1[IRQ12] (io), C23 PCIXAD28 (io), D1 PCIXAD36 (io), D3 PCIXAD45 (io), D5 PCIXAD53 (io), D7 PCIXAD61 (io), D9 ~{PCIXAck6}4 (io), D16 PCIXAD15 (io), D20 PCIXAD20 (io), D22 PCIXAD30 (io), D24 PCIXAD31 (io), E1 EMCRxD1,EMC0RxD1 (io), E2 PCIXAD40 (io), E3 PCIXClk (in), E4 PCIXAD49 (io), E6 PCIXAD56 (io), E7 PCIXAD60 (io), E8 PCIXAD63 (io), E9 ~{PCIXReq6}4 (io), E10 PCIXAD03 (io), E12 ~{PCIXIRD}Y (io), E13 ~{PCIXDevSe}l (io), E15 PCIXAD11 (io), E16 PCIXC1[~{BE1}] (io), E18 PCIXAD16 (io), E19 PCIXAD17 (io), E20 ~{PCIXReq}2 (in), E21 ~{PCIXReq}1[IRQ11] (in), E22 ~{PCIXGnt}0 (io), E23 PCIXAD27 (io), E24 ~{PCIXReq}0 (io), F1 PCIXAD35 (io), F3 PCIXAD44 (io), F5 PCIXAD52 (io), F7 PCIXAD59 (io), F9 PCIXC7[~{BE7}] (io), F11 PCIXAD06 (io), F14 PCIXC0[~{BE0}] (io), F16 PCIXParLow (io), F18 PCIXAD18 (io), F20 PCIXC3[~{BE3}] (io), F22 PCIXAD24 (io), F24 PCIXAD29 (io), G2 PCIXAD39 (io), G3 EMCRxD0,EMC0RxD0 (io), G4 PCIXAD48 (io), G5 PCIXAD43 (io), G7 PCIXIDSel (in), G8 PCIX133Cap (out), G9 PCIXC6[~{BE6}] (io), G10 PCIXAD02 (io), G12 PCIXAD07 (io), G14 PCIXAD08 (io), G15 PCIXAD12 (io), G18 PCIXAD19 (io), G21 PCIXAD26 (io), G23 ~{PCIXReq}4 (in), H1 PCIXAD33 (io), H3 PCIXAD32 (io), H5 PCIXAD38 (io), H7 PCIXAD47 (io), H9 EMCRxD3,EMC1RxD1 (io), J2 EMCRxClk (in), J3 EMCTxD3,EMC1TxD1 (out), J4 EMCTxD2,EMC1TxD0 (out), J5 PCIXAD37 (io), J6 EMCTxClk,EMCRefClk (in), J7 EMCCD,EMC1RxErr (io), J8 EMCMDClk (out), K1 EMCRxDV,EMC1CrSDV (in), K3 EMCRxErr,EMC0RxErr (in), K5 EMCTxD1,EMC0TxD1 (out), K7 EMCCrS,EMC0CrSDV (io), L4 PCIXParHigh (io), L5 EMCMDIO (io), L6 EMCTxEn,EMC0TxEn (out), L8 PCIXAD34 (io), L9 EMCTxD0,EMC0TxD0 (out), L12 ~{PCIXSto}p (io), L23 PCIXCap (in), M7 ~{PCIXIN}T (out), M18 ~{PCIXGn}~{t}3 (out), M24 ~{PCIXRese}t (out), N9 TrcES2[GPIO23] (io), N16 TrcBS0[GPIO18] (io), N22 ~{PCIXGnt}2 (out), P3 TrcTS1[GPIO27] (io), P8 TrcES3[GPIO24] (io), P9 TrcTS3[GPIO29] (io), P17 TrcBS1[GPIO19] (io), P19 ~{PCIXGnt}5 (out), P23 TrcES1[GPIO22] (io), R1 TrcTS6 (io), R5 TrcClk (out), R7 TrcTS2[GPIO28] (io), R9 TrcTS4[GPIO30] (io), R18 ~{PCIXReq}5 (in), R20 ~{PCIXReq}3 (in), R22 ~{PCIXGnt}4 (out), T4 TrcTS0[GPIO26] (io), T5 TrcES4[GPIO25] (io), T6 TrcTS5[GPIO31] (io), T20 TrcBS2[GPIO20] (io), T21 TrcES0[GPIO21] (io)
part C pins: A9 UARTSerClk (in), A12 PerAddr03 (io), A13 PerAddr12 (io), A16 PerAddr11 (io), A19 PerAddr04 (io), AA7 DM5 (out), AA9 DM4 (out), AA18 DM1 (out), AA22 ~{ExtAc}k (out), AA24 BusReq (out), AB14 DM2 (out), AB23 ~{ExtRe}q (in), AC5 DM8 (out), B11 PerAddr02 (io), B14 PerAddr13 (io), B18 ~{UART0_DT}R (out), B20 PerAddr16 (io), C7 ~{PerBLas}t (io), C11 PerAddr01 (io), C13 ~{UART0_CT}S (in), C14 PerAddr14 (io), C18 UART1_Rx[GPIO12] (io), C20 PerAddr10 (io), D11 PerAddr00 (io), D14 PerAddr15 (io), D18 PerAddr05 (io), E5 ~{UART1_RT}S/~{DTR}[GPIO15] (io), E11 PerAddr06 (io), E14 PerAddr09 (io), E17 ~{PerCS}0 (out), G6 ~{UART1_DS}R/~{CTS}[GPIO14] (io), G11 IIC0SClk (io), G13 IIC0SDA (io), G16 ~{UART0_RT}S (out), G17 UART0_Rx (in), G19 PerData04 (io), G20 PerData03 (io), H11 IIC1SClk[GPIO16] (io), H14 IIC1SDA[GPIO17] (io), H16 ~{UART0_R}I (in), H18 PerData05 (io), H20 PerData02 (io), H22 PerData01 (io), H24 PerData00 (io), J9 PerData19 (io), J10 PerData18 (io), J11 PerData17 (io), J12 PerData16 (io), J13 PerData15 (io), J14 PerData14 (io), J15 PerData13 (io), J16 UART1_Tx[GPIO13] (io), J17 PerData12 (io), J18 PerData11 (io), J19 PerData10 (io), J20 PerData09 (io), J21 PerData08 (io), J22 PerData07 (io), J23 PerData06 (io), K9 PerData28 (io), K11 PerData27 (io), K14 PerData26 (io), K16 PerData25 (io), K18 PerData24 (io), K20 PerData23 (io), K22 PerData22 (io), K24 PerData21 (io), L3 ~{PerCS}4 (out), L10 ~{PerCS}1 (out), L11 UART0_Tx (in), L13 ~{PerCS}6 (out), L14 PerData20 (io), L15 PerAddr17 (io), L16 PerData31 (io), L17 PerData30 (io), L19 PerData29 (io), L21 PerAddr18 (io), L22 PerAddr19 (io), L24 PerAddr22 (io), M1 PerAddr21 (io), M3 PerAddr07 (io), M9 ~{PerO}E (out), M11 DMAReq1 (in), M16 EOT3/TC3 (io), M22 PerAddr20 (io), N1 PerAddr08 (io), N3 PerAddr28 (io), N5 DMAAck0 (out), N7 PerReady[RcvrInh] (in), N11 DMAReq2 (in), P1 DMAReq3 (in), P2 ~{PerW}E (out), P5 PerR/~{W} (io), P6 DMAAck2 (out), P7 DMAAck1 (out), P11 DMAAck3 (out), P13 DM3 (out), P15 EOT1/TC1 (io), P16 EOT2/TC2 (io), P21 PerErr (io), P24 PerAddr23 (io), R3 DMAReq0 (in), R16 EOT0/TC0 (io), R24 PerAddr25 (io), T3 ~{PerCS}5 (out), T16 DM0 (out), T17 ~{ExtRese}t (out), T18 ~{PerWBE}0 (io), T19 PerAddr24 (io), T22 PerPar1 (io), T23 PerPar0 (io), T24 ~{PerCS}3 (out), U3 ~{PerCS}7 (out), U18 PerClk (out), U20 PerPar3 (io), U22 PerAddr26 (io), U24 PerAddr27 (io), V2 ~{UART0_DS}R (in), V3 DM7 (out), V4 ~{PerCS}2 (out), V19 ~{PerWBE}1 (io), V20 PerAddr29 (io), V21 PerAddr31 (io), V23 PerAddr30 (io), V24 ~{UART0_DC}D (in), W20 PerPar2 (io), W22 ~{PerWBE}2 (io), W24 ~{PerWBE}3 (io), Y3 DM6 (out), Y21 HoldAck (out), Y23 HoldReq (in)
part D pins: AA2 GND (power), AA4 VDD (power), AA6 GND (power), AA8 SVDD (power), AA10 GND (power), AA11 AGND (power), AA12 VDD (power), AA13 GND (power), AA15 SVDD (power), AA17 GND (power), AA19 VDD (power), AA21 GND (power), AA23 OVDD (power), AB11 AMVDD (power), AC4 GND (power), AC6 SVDD (power), AC8 GND (power), AC10 VDD (power), AC12 GND (power), AC13 SVDD (power), AC15 GND (power), AC17 VDD (power), AC19 GND (power), AC21 SVDD (power), B4 OVDD (power), B6 GND (power), B8 VDD (power), B10 GND (power), B12 OVDD (power), B13 GND (power), B15 VDD (power), B17 GND (power), B19 OVDD (power), B21 GND (power), D2 OVDD (power), D4 GND (power), D6 VDD (power), D8 GND (power), D10 OVDD (power), D12 GND (power), D13 VDD (power), D15 GND (power), D17 OVDD (power), D19 GND (power), D21 VDD (power), D23 GND (power), F2 GND (power), F4 VDD (power), F6 GND (power), F8 OVDD (power), F10 GND (power), F12 VDD (power), F13 GND (power), F15 OVDD (power), F17 GND (power), F19 VDD (power), F21 GND (power), F23 OVDD (power), G1 APVDD (power), G24 ASVDD (power), H2 VDD (power), H4 GND (power), H6 OVDD (power), H8 GND (power), H10 OVDD (power), H12 GND (power), H13 OVDD (power), H15 GND (power), H17 VDD (power), H19 GND (power), H21 OVDD (power), H23 GND (power), J1 AGND (power), J24 AGND (power), K2 GND (power), K4 OVDD (power), K6 GND (power), K8 OVDD (power), K10 GND (power), K12 VDD (power), K13 GND (power), K15 VDD (power), K17 GND (power), K19 OVDD (power), K21 GND (power), K23 VDD (power), M2 OVDD (power), M4 GND (power), M6 VDD (power), M8 GND (power), M10 VDD (power), M12 GND (power), M13 VDD (power), M15 GND (power), M17 OVDD (power), M19 GND (power), M21 VDD (power), M23 GND (power), N2 GND (power), N4 VDD (power), N6 GND (power), N8 OVDD (power), N10 GND (power), N12 VDD (power), N13 GND (power), N15 VDD (power), N17 GND (power), N19 VDD (power), N21 GND (power), N23 OVDD (power), R2 VDD (power), R4 GND (power), R6 OVDD (power), R8 GND (power), R10 VDD (power), R12 GND (power), R13 VDD (power), R15 GND (power), R17 OVDD (power), R19 GND (power), R21 OVDD (power), R23 GND (power), U2 GND (power), U4 OVDD (power), U6 GND (power), U8 VDD (power), U10 GND (power), U12 SVDD (power), U13 GND (power), U15 SVDD (power), U17 GND (power), U19 OVDD (power), U21 GND (power), U23 VDD (power), W2 OVDD (power), W4 GND (power), W6 VDD (power), W8 GND (power), W10 SVDD (power), W12 GND (power), W13 VDD (power), W15 GND (power), W17 SVDD (power), W19 GND (power), W21 VDD (power), W23 GND (power)

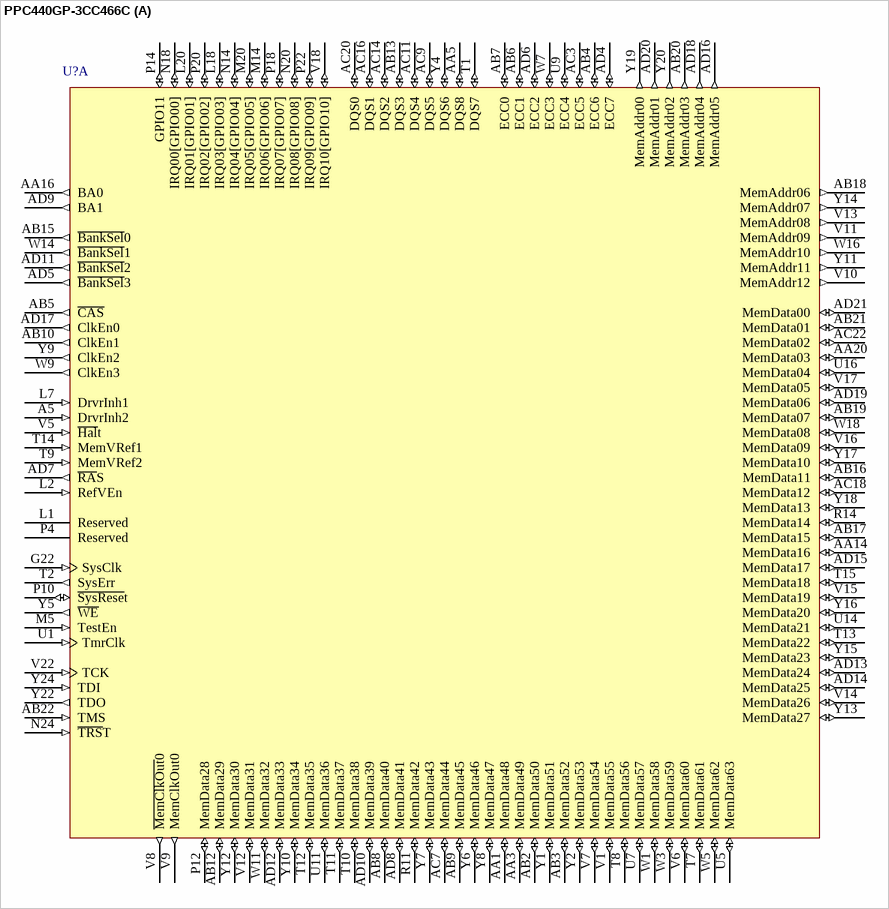
[diagram p204: symbol PPC440GP-3CC466C]

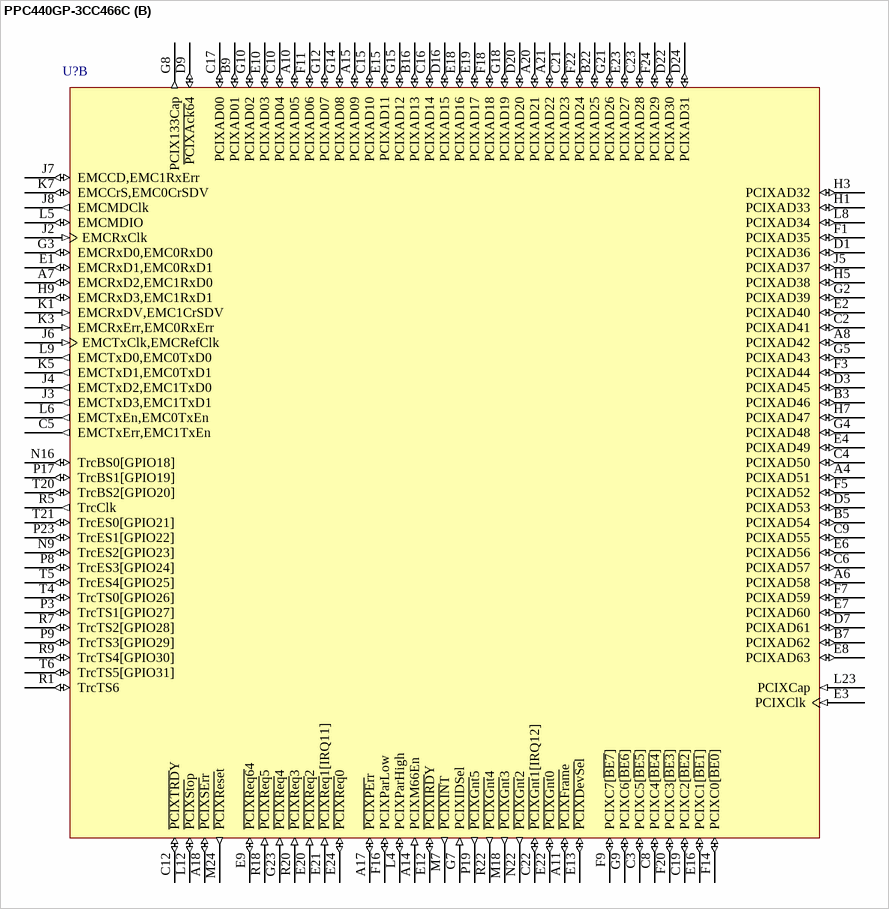
[diagram p205: symbol PPC440GP-3CC466C]

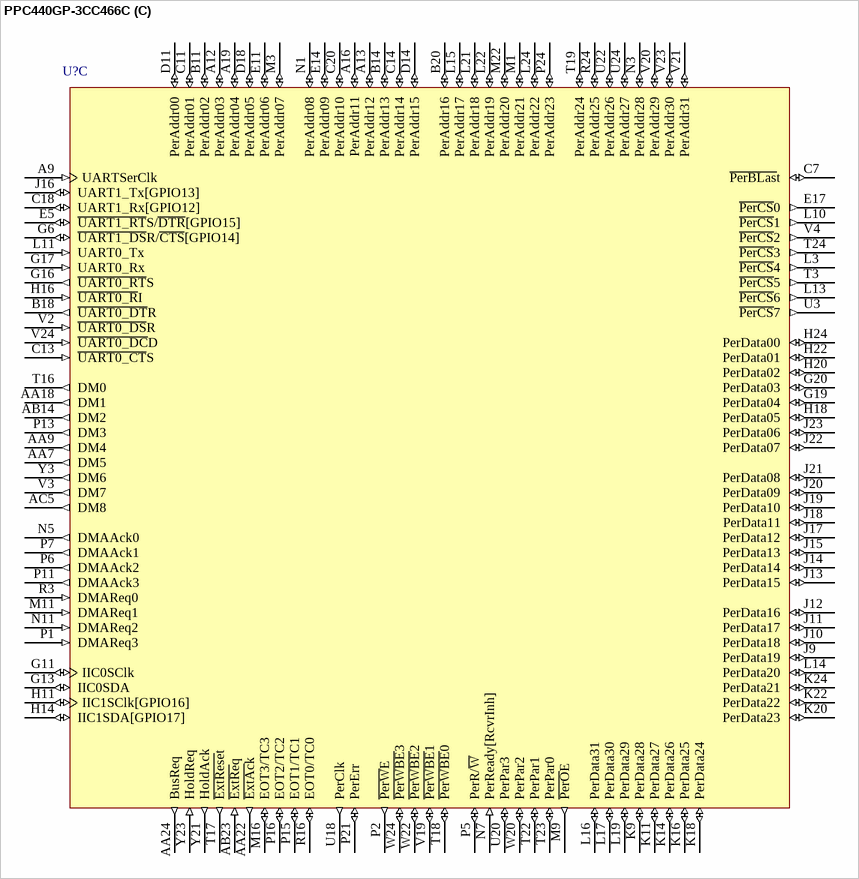
[diagram p206: symbol PPC440GP-3CC466C]

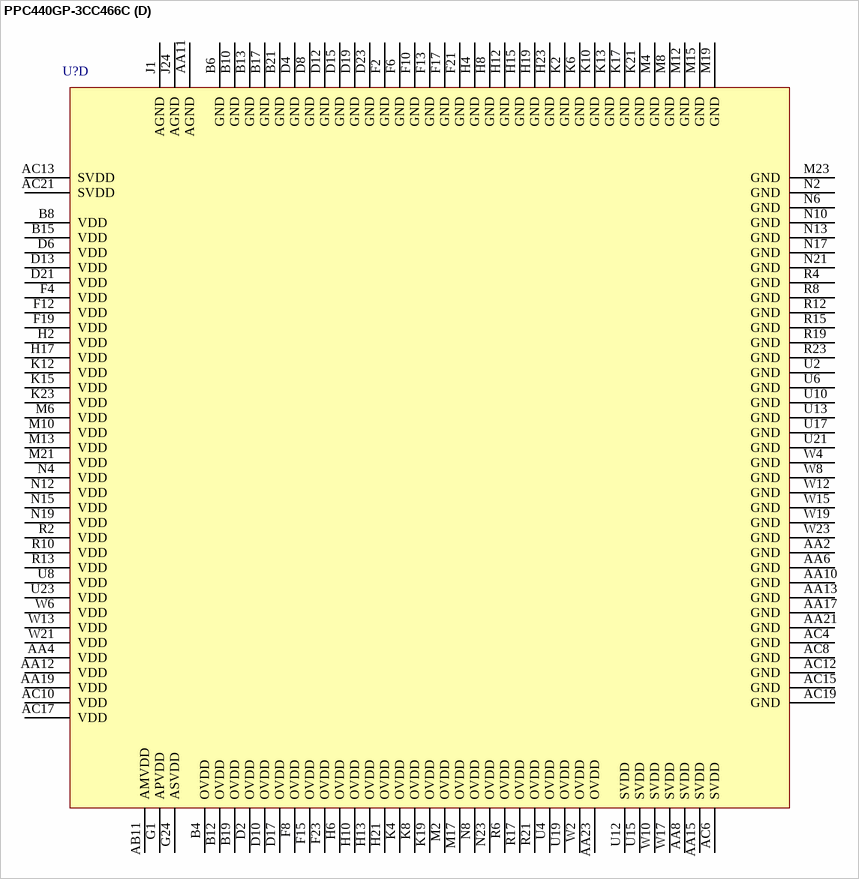
[diagram p207: symbol PPC440GP-3CC466C]

## PPC440GP-3CC466C
designator U?
PowerPC 440GP Embedded Processor, 466MHz, 25mm, 552 Ball CBGA; Published: 6-Oct-2005; LatestRevisionDate: 13-Apr-2006; LatestRevisionNote: IPC-7351 Footprint Added.; DatasheetVersion: rev1.06, Nov-2005; PackageVersion: Nov-2005; PackageReference: CBGA552_38; Publisher: Altium Limited; PackageDescription: 552-Ball Ceramic Ball Grid Array; ComponentLink1Description: Manufacturer Link; ComponentLink1URL: http://www.amcc.com/; ComponentLink2Description: Datasheet; ComponentLink2URL: https://www.amcc.com/MyAMCC/retrieveDocument/PowerPC/440GP/PPC440GP_DS2006_v1_06.pdf
footprint CBGA552_38 (BGA, 552-Leads, Body 25x25mm, Pitch 1mm)
3D model PPC440GP-CBGA552   (552-Ball Ceramic Ball Grid Array)
part A pins: A5 DrvrInh2 (in), AA1 MemData48 (io), AA3 MemData49 (io), AA5 DQS8 (io), AA14 MemData16 (io), AA16 BA0 (out), AA20 MemData03 (io), AB2 MemData50 (io), AB3 MemData52 (io), AB4 ECC6 (io), AB5 ~{CAS} (out), AB6 ECC1 (io), AB7 ECC0 (io), AB8 MemData40 (io), AB9 MemData45 (io), AB10 ClkEn1 (out), AB12 MemData29 (io), AB13 DQS3 (io), AB15 ~{BankSel}0 (out), AB16 MemData11 (io), AB17 MemData15 (io), AB18 MemAddr06 (out), AB19 MemData07 (io), AB20 MemAddr03 (out), AB21 MemData01 (io), AB22 TMS (in), AC3 ECC5 (io), AC7 MemData44 (io), AC9 DQS5 (io), AC11 DQS4 (io), AC14 DQS2 (io), AC16 DQS1 (io), AC18 MemData12 (io), AC20 DQS0 (io), AC22 MemData02 (io), AD4 ECC7 (io), AD5 ~{BankSel}3 (out), AD6 ECC2 (io), AD7 ~{RA}S (out), AD8 MemData41 (io), AD9 BA1 (out), AD10 MemData39 (io), AD11 ~{BankSel}2 (out), AD12 MemData33 (io), AD13 MemData24 (io), AD14 MemData25 (io), AD15 MemData17 (io), AD16 MemAddr05 (out), AD17 ClkEn0 (out), AD18 MemAddr04 (out), AD19 MemData06 (io), AD20 MemAddr01 (out), AD21 MemData00 (io), G22 SysClk (in), L1 Reserved, L2 RefVEn (in), L7 DrvrInh1 (in), L18 IRQ03[GPIO03] (io), L20 IRQ01[GPIO01] (io), M5 TestEn (in), M14 IRQ06[GPIO06] (io), M20 IRQ05[GPIO05] (io), N14 IRQ04[GPIO04] (io), N18 IRQ00[GPIO00] (io), N20 IRQ08[GPIO08] (io), N24 ~{TRS}T (in), P4 Reserved, P10 ~{SysRese}t (io), P12 MemData28 (io), P14 GPIO11 (io), P18 IRQ07[GPIO07] (io), P20 IRQ02[GPIO02] (io), P22 IRQ09[GPIO09] (io), R11 MemData42 (io), R14 MemData14 (io), T1 DQS7 (io), T2 SysErr (out), T7 MemData61 (io), T8 MemData56 (io), T9 MemVRef2 (in), T10 MemData38 (io), T11 MemData37 (io), T12 MemData35 (io), T13 MemData22 (io), T14 MemVRef1 (in), T15 MemData18 (io), U1 TmrClk (in), U5 MemData63 (io), U7 MemData57 (io), U9 ECC4 (io), U11 MemData36 (io), U14 MemData21 (io), U16 MemData04 (io), V1 MemData55 (io), V5 ~{Hal}t (in), V6 MemData60 (io), V7 MemData54 (io), V8 ~{MemClkOut}0 (out), V9 MemClkOut0 (out), V10 MemAddr12 (out), V11 MemAddr09 (out), V12 MemData31 (io), V13 MemAddr08 (out), V14 MemData26 (io), V15 MemData19 (io), V16 MemData09 (io), V17 MemData05 (io), V18 IRQ10[GPIO10] (io), V22 TCK (in), W1 MemData58 (io), W3 MemData59 (io), W5 MemData62 (io), W7 ECC3 (io), W9 ClkEn3 (out), W11 MemData32 (io), W14 ~{BankSel}1 (out), W16 MemAddr10 (out), W18 MemData08 (io), Y1 MemData51 (io), Y2 MemData53 (io), Y4 DQS6 (io), Y5 ~{WE} (out), Y6 MemData46 (io), Y7 MemData43 (io), Y8 MemData47 (io), Y9 ClkEn2 (out), Y10 MemData34 (io), Y11 MemAddr11 (out), Y12 MemData30 (io), Y13 MemData27 (io), Y14 MemAddr07 (out), Y15 MemData23 (io), Y16 MemData20 (io), Y17 MemData10 (io), Y18 MemData13 (io), Y19 MemAddr00 (out), Y20 MemAddr02 (out), Y22 TDO (out), Y24 TDI (in)
part B pins: A4 PCIXAD51 (io), A6 PCIXAD58 (io), A7 EMCRxD2,EMC1RxD0 (io), A8 PCIXAD42 (io), A10 PCIXAD05 (io), A11 ~{PCIXFram}e (io), A14 PCIXM66En (in), A15 PCIXAD09 (io), A17 ~{PCIXPEr}r (io), A18 ~{PCIXSEr}r (io), A20 PCIXAD21 (io), A21 PCIXAD22 (io), B3 PCIXAD46 (io), B5 PCIXAD54 (io), B7 PCIXAD62 (io), B9 PCIXAD01 (io), B16 PCIXAD13 (io), B22 PCIXAD25 (io), C2 PCIXAD41 (io), C3 PCIXC5[~{BE5}] (io), C4 PCIXAD50 (io), C5 EMCTxErr,EMC1TxEn (out), C6 PCIXAD57 (io), C8 PCIXC4[~{BE4}] (io), C9 PCIXAD55 (io), C10 PCIXAD04 (io), C12 ~{PCIXTRD}Y (io), C15 PCIXAD10 (io), C16 PCIXAD14 (io), C17 PCIXAD00 (io), C19 PCIXC2[~{BE2}] (io), C21 PCIXAD23 (io), C22 ~{PCIXGnt}1[IRQ12] (io), C23 PCIXAD28 (io), D1 PCIXAD36 (io), D3 PCIXAD45 (io), D5 PCIXAD53 (io), D7 PCIXAD61 (io), D9 ~{PCIXAck6}4 (io), D16 PCIXAD15 (io), D20 PCIXAD20 (io), D22 PCIXAD30 (io), D24 PCIXAD31 (io), E1 EMCRxD1,EMC0RxD1 (io), E2 PCIXAD40 (io), E3 PCIXClk (in), E4 PCIXAD49 (io), E6 PCIXAD56 (io), E7 PCIXAD60 (io), E8 PCIXAD63 (io), E9 ~{PCIXReq6}4 (io), E10 PCIXAD03 (io), E12 ~{PCIXIRD}Y (io), E13 ~{PCIXDevSe}l (io), E15 PCIXAD11 (io), E16 PCIXC1[~{BE1}] (io), E18 PCIXAD16 (io), E19 PCIXAD17 (io), E20 ~{PCIXReq}2 (in), E21 ~{PCIXReq}1[IRQ11] (in), E22 ~{PCIXGnt}0 (io), E23 PCIXAD27 (io), E24 ~{PCIXReq}0 (io), F1 PCIXAD35 (io), F3 PCIXAD44 (io), F5 PCIXAD52 (io), F7 PCIXAD59 (io), F9 PCIXC7[~{BE7}] (io), F11 PCIXAD06 (io), F14 PCIXC0[~{BE0}] (io), F16 PCIXParLow (io), F18 PCIXAD18 (io), F20 PCIXC3[~{BE3}] (io), F22 PCIXAD24 (io), F24 PCIXAD29 (io), G2 PCIXAD39 (io), G3 EMCRxD0,EMC0RxD0 (io), G4 PCIXAD48 (io), G5 PCIXAD43 (io), G7 PCIXIDSel (in), G8 PCIX133Cap (out), G9 PCIXC6[~{BE6}] (io), G10 PCIXAD02 (io), G12 PCIXAD07 (io), G14 PCIXAD08 (io), G15 PCIXAD12 (io), G18 PCIXAD19 (io), G21 PCIXAD26 (io), G23 ~{PCIXReq}4 (in), H1 PCIXAD33 (io), H3 PCIXAD32 (io), H5 PCIXAD38 (io), H7 PCIXAD47 (io), H9 EMCRxD3,EMC1RxD1 (io), J2 EMCRxClk (in), J3 EMCTxD3,EMC1TxD1 (out), J4 EMCTxD2,EMC1TxD0 (out), J5 PCIXAD37 (io), J6 EMCTxClk,EMCRefClk (in), J7 EMCCD,EMC1RxErr (io), J8 EMCMDClk (out), K1 EMCRxDV,EMC1CrSDV (in), K3 EMCRxErr,EMC0RxErr (in), K5 EMCTxD1,EMC0TxD1 (out), K7 EMCCrS,EMC0CrSDV (io), L4 PCIXParHigh (io), L5 EMCMDIO (io), L6 EMCTxEn,EMC0TxEn (out), L8 PCIXAD34 (io), L9 EMCTxD0,EMC0TxD0 (out), L12 ~{PCIXSto}p (io), L23 PCIXCap (in), M7 ~{PCIXIN}T (out), M18 ~{PCIXGn}~{t}3 (out), M24 ~{PCIXRese}t (out), N9 TrcES2[GPIO23] (io), N16 TrcBS0[GPIO18] (io), N22 ~{PCIXGnt}2 (out), P3 TrcTS1[GPIO27] (io), P8 TrcES3[GPIO24] (io), P9 TrcTS3[GPIO29] (io), P17 TrcBS1[GPIO19] (io), P19 ~{PCIXGnt}5 (out), P23 TrcES1[GPIO22] (io), R1 TrcTS6 (io), R5 TrcClk (out), R7 TrcTS2[GPIO28] (io), R9 TrcTS4[GPIO30] (io), R18 ~{PCIXReq}5 (in), R20 ~{PCIXReq}3 (in), R22 ~{PCIXGnt}4 (out), T4 TrcTS0[GPIO26] (io), T5 TrcES4[GPIO25] (io), T6 TrcTS5[GPIO31] (io), T20 TrcBS2[GPIO20] (io), T21 TrcES0[GPIO21] (io)
part C pins: A9 UARTSerClk (in), A12 PerAddr03 (io), A13 PerAddr12 (io), A16 PerAddr11 (io), A19 PerAddr04 (io), AA7 DM5 (out), AA9 DM4 (out), AA18 DM1 (out), AA22 ~{ExtAc}k (out), AA24 BusReq (out), AB14 DM2 (out), AB23 ~{ExtRe}q (in), AC5 DM8 (out), B11 PerAddr02 (io), B14 PerAddr13 (io), B18 ~{UART0_DT}R (out), B20 PerAddr16 (io), C7 ~{PerBLas}t (io), C11 PerAddr01 (io), C13 ~{UART0_CT}S (in), C14 PerAddr14 (io), C18 UART1_Rx[GPIO12] (io), C20 PerAddr10 (io), D11 PerAddr00 (io), D14 PerAddr15 (io), D18 PerAddr05 (io), E5 ~{UART1_RT}S/~{DTR}[GPIO15] (io), E11 PerAddr06 (io), E14 PerAddr09 (io), E17 ~{PerCS}0 (out), G6 ~{UART1_DS}R/~{CTS}[GPIO14] (io), G11 IIC0SClk (io), G13 IIC0SDA (io), G16 ~{UART0_RT}S (out), G17 UART0_Rx (in), G19 PerData04 (io), G20 PerData03 (io), H11 IIC1SClk[GPIO16] (io), H14 IIC1SDA[GPIO17] (io), H16 ~{UART0_R}I (in), H18 PerData05 (io), H20 PerData02 (io), H22 PerData01 (io), H24 PerData00 (io), J9 PerData19 (io), J10 PerData18 (io), J11 PerData17 (io), J12 PerData16 (io), J13 PerData15 (io), J14 PerData14 (io), J15 PerData13 (io), J16 UART1_Tx[GPIO13] (io), J17 PerData12 (io), J18 PerData11 (io), J19 PerData10 (io), J20 PerData09 (io), J21 PerData08 (io), J22 PerData07 (io), J23 PerData06 (io), K9 PerData28 (io), K11 PerData27 (io), K14 PerData26 (io), K16 PerData25 (io), K18 PerData24 (io), K20 PerData23 (io), K22 PerData22 (io), K24 PerData21 (io), L3 ~{PerCS}4 (out), L10 ~{PerCS}1 (out), L11 UART0_Tx (in), L13 ~{PerCS}6 (out), L14 PerData20 (io), L15 PerAddr17 (io), L16 PerData31 (io), L17 PerData30 (io), L19 PerData29 (io), L21 PerAddr18 (io), L22 PerAddr19 (io), L24 PerAddr22 (io), M1 PerAddr21 (io), M3 PerAddr07 (io), M9 ~{PerO}E (out), M11 DMAReq1 (in), M16 EOT3/TC3 (io), M22 PerAddr20 (io), N1 PerAddr08 (io), N3 PerAddr28 (io), N5 DMAAck0 (out), N7 PerReady[RcvrInh] (in), N11 DMAReq2 (in), P1 DMAReq3 (in), P2 ~{PerW}E (out), P5 PerR/~{W} (io), P6 DMAAck2 (out), P7 DMAAck1 (out), P11 DMAAck3 (out), P13 DM3 (out), P15 EOT1/TC1 (io), P16 EOT2/TC2 (io), P21 PerErr (io), P24 PerAddr23 (io), R3 DMAReq0 (in), R16 EOT0/TC0 (io), R24 PerAddr25 (io), T3 ~{PerCS}5 (out), T16 DM0 (out), T17 ~{ExtRese}t (out), T18 ~{PerWBE}0 (io), T19 PerAddr24 (io), T22 PerPar1 (io), T23 PerPar0 (io), T24 ~{PerCS}3 (out), U3 ~{PerCS}7 (out), U18 PerClk (out), U20 PerPar3 (io), U22 PerAddr26 (io), U24 PerAddr27 (io), V2 ~{UART0_DS}R (in), V3 DM7 (out), V4 ~{PerCS}2 (out), V19 ~{PerWBE}1 (io), V20 PerAddr29 (io), V21 PerAddr31 (io), V23 PerAddr30 (io), V24 ~{UART0_DC}D (in), W20 PerPar2 (io), W22 ~{PerWBE}2 (io), W24 ~{PerWBE}3 (io), Y3 DM6 (out), Y21 HoldAck (out), Y23 HoldReq (in)
part D pins: AA2 GND (power), AA4 VDD (power), AA6 GND (power), AA8 SVDD (power), AA10 GND (power), AA11 AGND (power), AA12 VDD (power), AA13 GND (power), AA15 SVDD (power), AA17 GND (power), AA19 VDD (power), AA21 GND (power), AA23 OVDD (power), AB11 AMVDD (power), AC4 GND (power), AC6 SVDD (power), AC8 GND (power), AC10 VDD (power), AC12 GND (power), AC13 SVDD (power), AC15 GND (power), AC17 VDD (power), AC19 GND (power), AC21 SVDD (power), B4 OVDD (power), B6 GND (power), B8 VDD (power), B10 GND (power), B12 OVDD (power), B13 GND (power), B15 VDD (power), B17 GND (power), B19 OVDD (power), B21 GND (power), D2 OVDD (power), D4 GND (power), D6 VDD (power), D8 GND (power), D10 OVDD (power), D12 GND (power), D13 VDD (power), D15 GND (power), D17 OVDD (power), D19 GND (power), D21 VDD (power), D23 GND (power), F2 GND (power), F4 VDD (power), F6 GND (power), F8 OVDD (power), F10 GND (power), F12 VDD (power), F13 GND (power), F15 OVDD (power), F17 GND (power), F19 VDD (power), F21 GND (power), F23 OVDD (power), G1 APVDD (power), G24 ASVDD (power), H2 VDD (power), H4 GND (power), H6 OVDD (power), H8 GND (power), H10 OVDD (power), H12 GND (power), H13 OVDD (power), H15 GND (power), H17 VDD (power), H19 GND (power), H21 OVDD (power), H23 GND (power), J1 AGND (power), J24 AGND (power), K2 GND (power), K4 OVDD (power), K6 GND (power), K8 OVDD (power), K10 GND (power), K12 VDD (power), K13 GND (power), K15 VDD (power), K17 GND (power), K19 OVDD (power), K21 GND (power), K23 VDD (power), M2 OVDD (power), M4 GND (power), M6 VDD (power), M8 GND (power), M10 VDD (power), M12 GND (power), M13 VDD (power), M15 GND (power), M17 OVDD (power), M19 GND (power), M21 VDD (power), M23 GND (power), N2 GND (power), N4 VDD (power), N6 GND (power), N8 OVDD (power), N10 GND (power), N12 VDD (power), N13 GND (power), N15 VDD (power), N17 GND (power), N19 VDD (power), N21 GND (power), N23 OVDD (power), R2 VDD (power), R4 GND (power), R6 OVDD (power), R8 GND (power), R10 VDD (power), R12 GND (power), R13 VDD (power), R15 GND (power), R17 OVDD (power), R19 GND (power), R21 OVDD (power), R23 GND (power), U2 GND (power), U4 OVDD (power), U6 GND (power), U8 VDD (power), U10 GND (power), U12 SVDD (power), U13 GND (power), U15 SVDD (power), U17 GND (power), U19 OVDD (power), U21 GND (power), U23 VDD (power), W2 OVDD (power), W4 GND (power), W6 VDD (power), W8 GND (power), W10 SVDD (power), W12 GND (power), W13 VDD (power), W15 GND (power), W17 SVDD (power), W19 GND (power), W21 VDD (power), W23 GND (power)

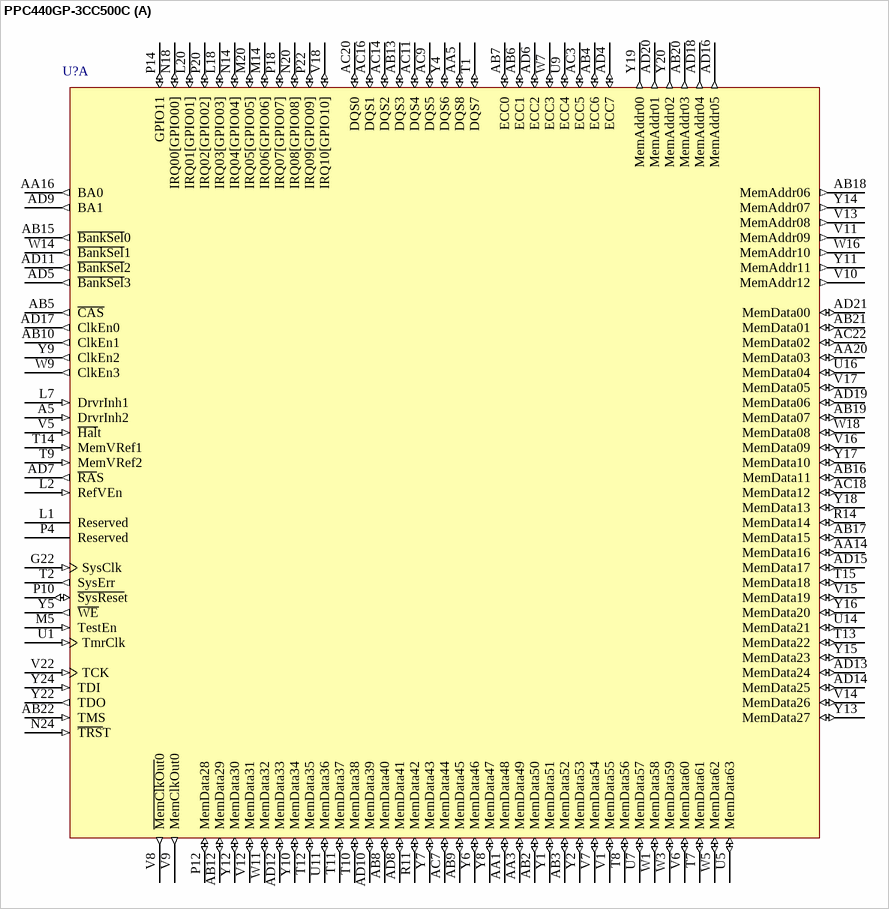
[diagram p208: symbol PPC440GP-3CC500C]

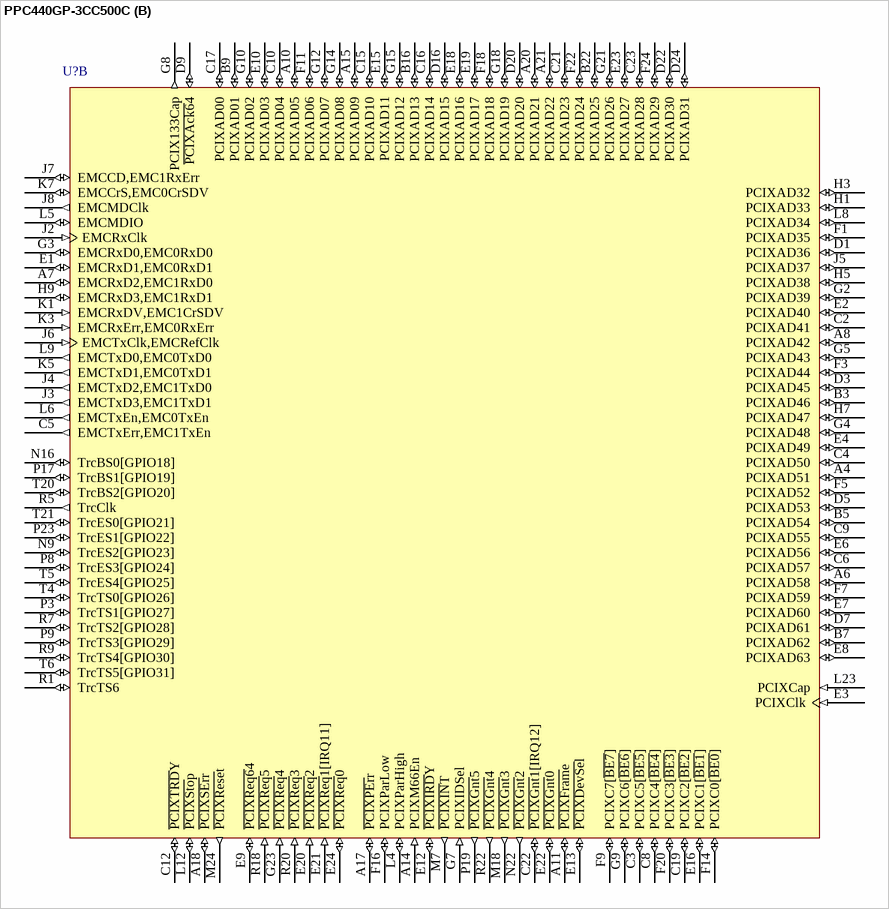
[diagram p209: symbol PPC440GP-3CC500C]

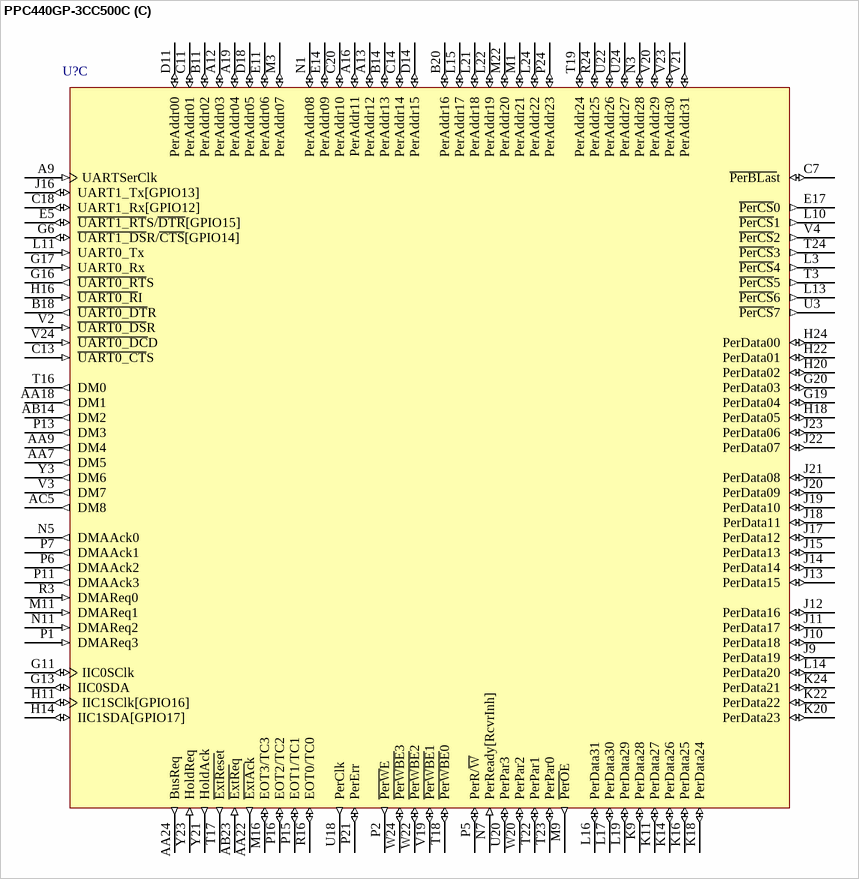
[diagram p210: symbol PPC440GP-3CC500C]

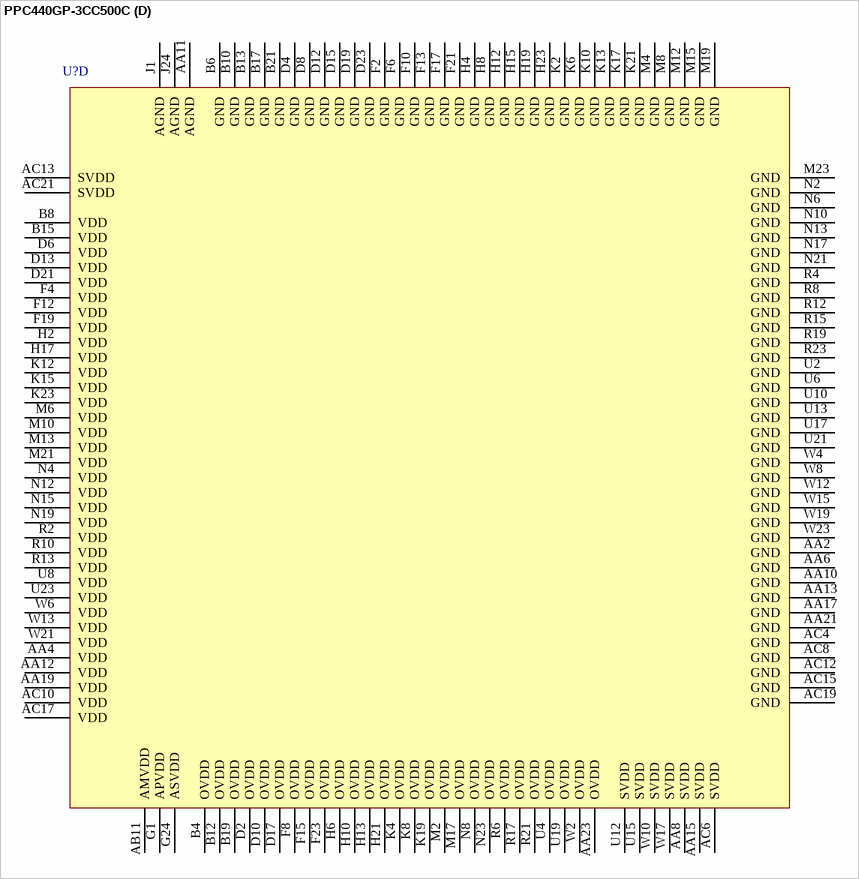
[diagram p211: symbol PPC440GP-3CC500C]